# Altium schematic symbol library SamacSys.SchLib: 337 symbols (part 3 of 4)
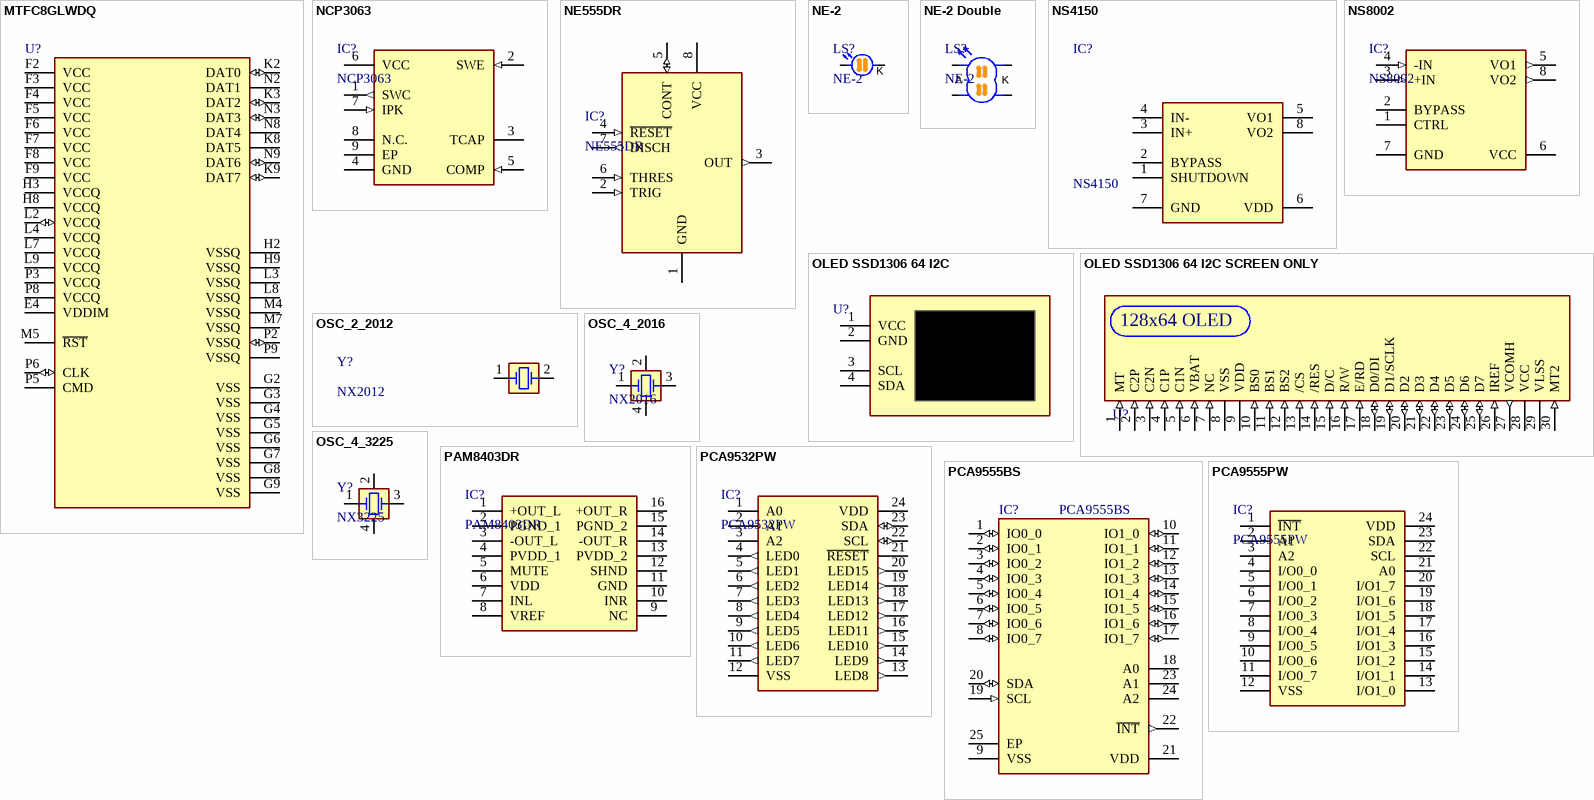
[diagram p12: symbols MTFC8GLWDQ to PCA9555PW]

## PCA9555BS
designator IC?
I/O Expander, HVQFN-24-EP(4x4), 16BIT, GPIO, I/O Expanders, ROHS; Manufacturer_Name: NXP; Manufacturer_Part_Number: PCA9555BS,118; Geometry.Height: 1mm; Mouser Part Number: 771-PCA9555BS-T; Mouser Price/Stock: https://www.mouser.co.uk/ProductDetail/NXP-Semiconductors/PCA9555BS118?qs=LOCUfHb8d9uBhjLUHjHsxQ%3D%3D; Arrow Part Number: PCA9555BS,118; Arrow Price/Stock: https://www.arrow.com/en/products/pca9555bs118/nxp-semiconductors?region=nac; Datasheet Link: http://www.nxp.com/docs/en/data-sheet/PCA9555.pdf; Value: PCA9555BS
footprint QFN50P400X400X100-25N-D
pins: 1 IO0_0 (io), 2 IO0_1 (io), 3 IO0_2 (io), 4 IO0_3 (io), 5 IO0_4 (io), 6 IO0_5 (io), 7 IO0_6 (io), 8 IO0_7 (io), 9 VSS (power), 10 IO1_0 (io), 11 IO1_1 (io), 12 IO1_2 (io), 13 IO1_3 (io), 14 IO1_4 (io), 15 IO1_5 (io), 16 IO1_6 (io), 17 IO1_7 (io), 18 A0, 19 SCL (in), 20 SDA (io), 21 VDD (power), 22 ~{INT} (out), 23 A1, 24 A2, 25 EP (power)

## PCA9555PW
designator IC?
I/O Expander, TSSOP-24, 400kHz, 16BIT, GPIO, I/O Expanders, ROHS; Datasheet Link: http://www.nxp.com/docs/en/data-sheet/PCA9555.pdf; Height: 1.1mm; Value: PCA9555PW
footprint SOP65P640X110-24N
pins: 1 ~{INT}, 2 A1, 3 A2, 4 I/O0_0, 5 I/O0_1, 6 I/O0_2, 7 I/O0_3, 8 I/O0_4, 9 I/O0_5, 10 I/O0_6, 11 I/O0_7, 12 VSS, 13 I/O1_0, 14 I/O1_1, 15 I/O1_2, 16 I/O1_3, 17 I/O1_4, 18 I/O1_5, 19 I/O1_6, 20 I/O1_7, 21 A0, 22 SCL, 23 SDA, 24 VDD

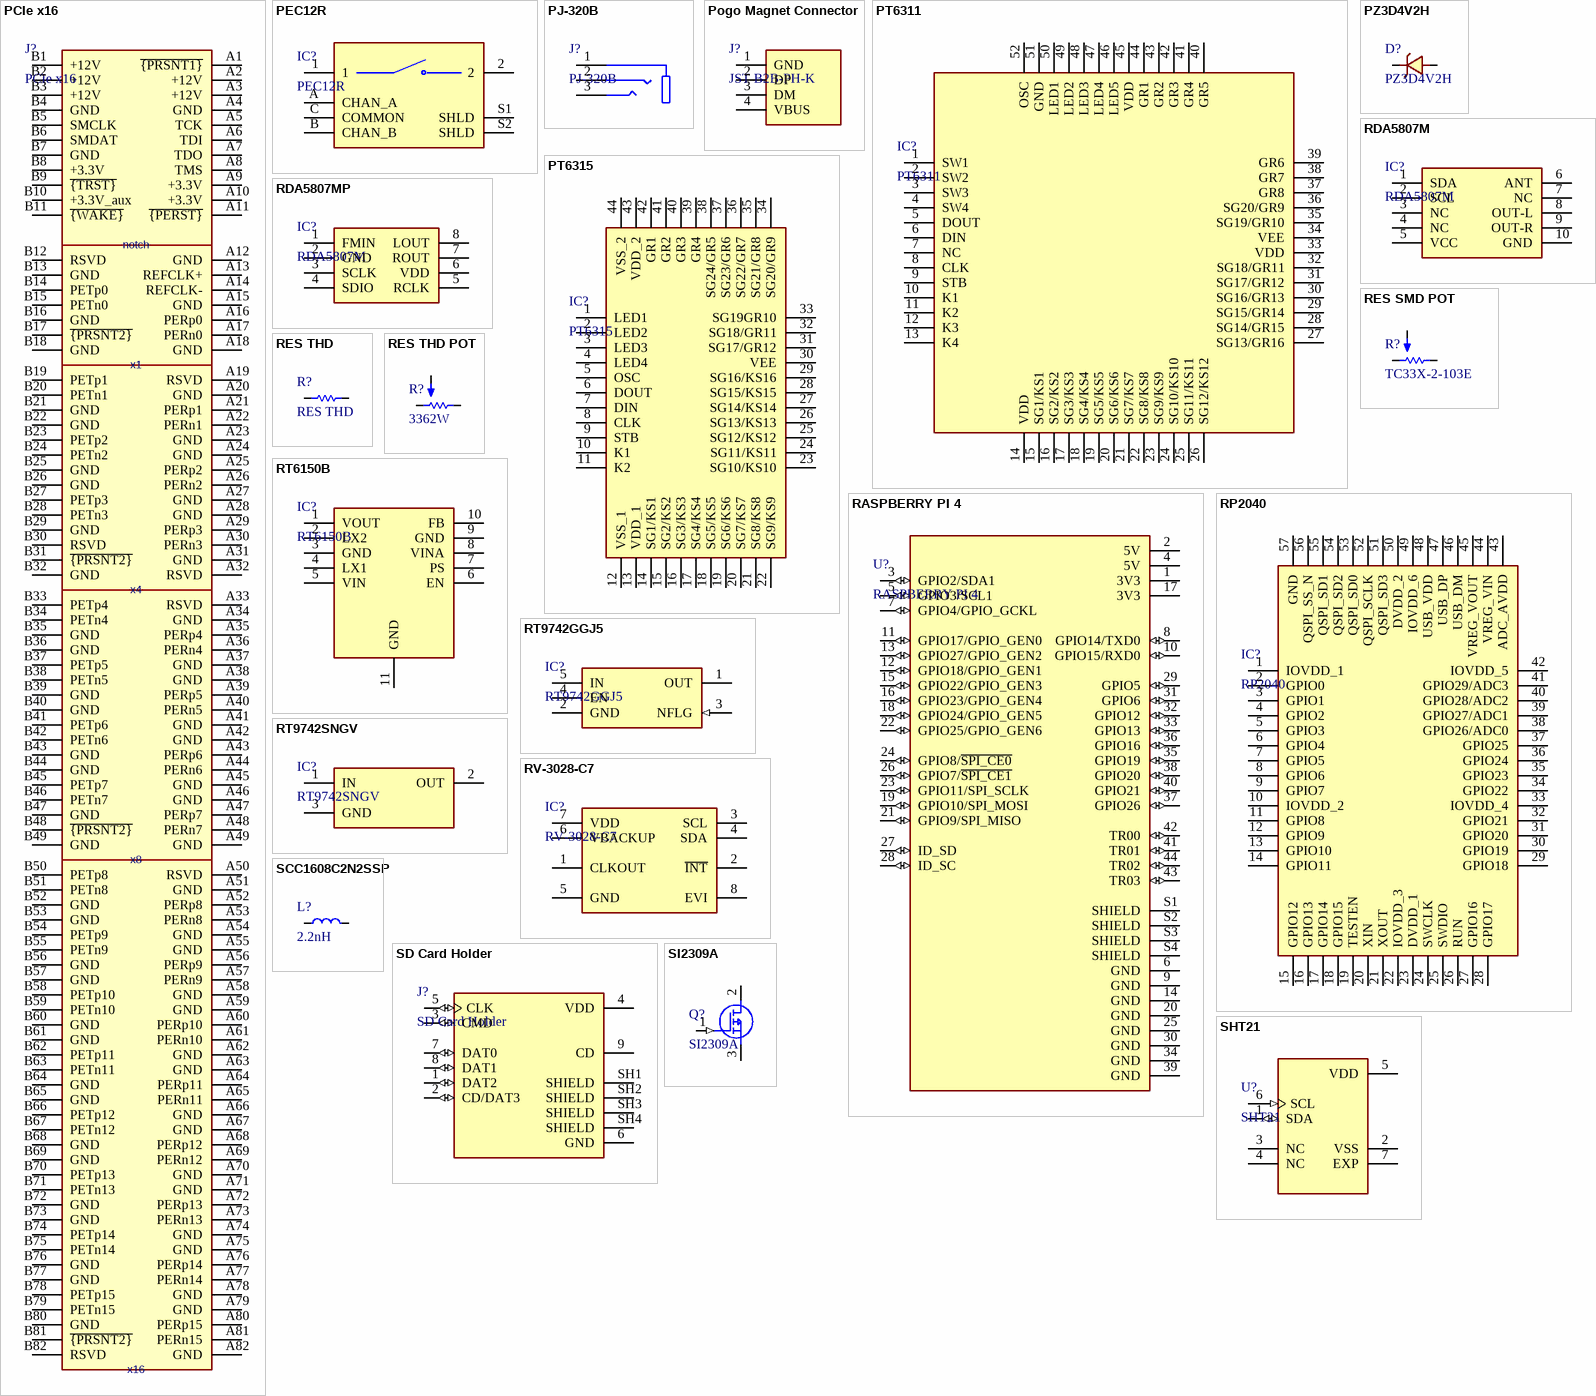
[diagram p7: symbols PCIe x16 to SI2309A]

## PCIe x16
designator J?
Card Edge, 164 Positions, 1mm Pitch, PCI Express x16, Card Edges, ROHS; MF: Amphenol ICC (FCI); MP: 10142333-10012MLF; SnapEDA_Link: https://www.snapeda.com/parts/10142333-10012MLF/Amphenol+FCI/view-part/?ref=snap; Package: None; Value: PCIe x16; Check_prices: https://www.snapeda.com/parts/10142333-10012MLF/Amphenol+FCI/view-part/?ref=eda
footprint PCIexpress_x16
pins: A1 ~{{PRSNT1}}, A2 +12V, A3 +12V, A4 GND, A5 TCK, A6 TDI, A7 TDO, A8 TMS, A9 +3.3V, A10 +3.3V, A11 ~{{PERST}}, A12 GND, A13 REFCLK+, A14 REFCLK-, A15 GND, A16 PERp0, A17 PERn0, A18 GND, A19 RSVD, A20 GND, A21 PERp1, A22 PERn1, A23 GND, A24 GND, A25 PERp2, A26 PERn2, A27 GND, A28 GND, A29 PERp3, A30 PERn3, A31 GND, A32 RSVD, A33 RSVD, A34 GND, A35 PERp4, A36 PERn4, A37 GND, A38 GND, A39 PERp5, A40 PERn5, A41 GND, A42 GND, A43 PERp6, A44 PERn6, A45 GND, A46 GND, A47 PERp7, A48 PERn7, A49 GND, A50 RSVD, A51 GND, A52 PERp8, A53 PERn8, A54 GND, A55 GND, A56 PERp9, A57 PERn9, A58 GND, A59 GND, A60 PERp10, A61 PERn10, A62 GND, A63 GND, A64 PERp11, A65 PERn11, A66 GND, A67 GND, A68 PERp12, A69 PERn12, A70 GND, A71 GND, A72 PERp13, A73 PERn13, A74 GND, A75 GND, A76 PERp14, A77 PERn14, A78 GND, A79 GND, A80 PERp15, A81 PERn15, A82 GND, B1 +12V, B2 +12V, B3 +12V, B4 GND, B5 SMCLK, B6 SMDAT, B7 GND, B8 +3.3V, B9 ~{{TRST}}, B10 +3.3V_aux, B11 ~{{WAKE}}, B12 RSVD, B13 GND, B14 PETp0, B15 PETn0, B16 GND, B17 ~{{PRSNT2}}, B18 GND, B19 PETp1, B20 PETn1, B21 GND, B22 GND, B23 PETp2, B24 PETn2, B25 GND, B26 GND, B27 PETp3, B28 PETn3, B29 GND, B30 RSVD, B31 ~{{PRSNT2}}, B32 GND, B33 PETp4, B34 PETn4, B35 GND, B36 GND, B37 PETp5, B38 PETn5, B39 GND, B40 GND, B41 PETp6, B42 PETn6, B43 GND, B44 GND, B45 PETp7, B46 PETn7, B47 GND, B48 ~{{PRSNT2}}, B49 GND, B50 PETp8, B51 PETn8, B52 GND, B53 GND, B54 PETp9, B55 PETn9, B56 GND, B57 GND, B58 PETp10, B59 PETn10, B60 GND, B61 GND, B62 PETp11, B63 PETn11, B64 GND, B65 GND, B66 PETp12, B67 PETn12, B68 GND, B69 GND, B70 PETp13, B71 PETn13, B72 GND, B73 GND, B74 PETp14, B75 PETn14, B76 GND, B77 GND, B78 PETp15, B79 PETn15, B80 GND, B81 ~{{PRSNT2}}, B82 RSVD
text: notch; x1; x4; x8; x16

## PEC12R
designator IC?
Rotary Encoder, Plugin, Rotary Encoders, ROHS; Value: PEC12R
footprint PEC12R (Encoder Horizontal)
pins: 1, 2, A CHAN_A, B CHAN_B, C COMMON, S1 SHLD, S2 SHLD

## PJ-320B
designator J?
Audio Connector, 3.5mm, Headphone Jack, 30V, 200mA, SMD Audio Connectors, ROHS; Value: PJ-320B; Package: Package
footprint PJ-320B
pins: 1 SLEEVE, 2 RING, 3 TIP

## Pogo Magnet Connector
designator J?, comment JST B2B-PH-K
Pogo Pin Spring Probe Connector, Brass, Magnetic Spring Seedle Demale Socket, 4P 50mΩ, 10,000 Times, Gold, Pogo Pin Spring Probe Connectors, ROHS; Value: JST B2B-PH-K
footprint POGO
pins: 1 GND, 2 DP, 3 DM, 4 VBUS

## PT6311
designator IC?
Driver VFD/Controller IC, LQFP-52(14x14), ROHS; Datasheet Link: http://www.bg-electronics.de/datenblaetter/Schaltkreise/PT6315.pdf; Height: 1.6mm; Value: PT6311
footprint QFP100P1720X1720X315-52N (CQFP, 52-Leads, Body 17,20x17,20mm, Pitch 1,00mm, IPC Medium Density)
pins: 1 SW1, 2 SW2, 3 SW3, 4 SW4, 5 DOUT, 6 DIN, 7 NC, 8 CLK, 9 STB, 10 K1, 11 K2, 12 K3, 13 K4, 14 VDD, 15 SG1/KS1, 16 SG2/KS2, 17 SG3/KS3, 18 SG4/KS4, 19 SG5/KS5, 20 SG6/KS6, 21 SG7/KS7, 22 SG8/KS8, 23 SG9/KS9, 24 SG10/KS10, 25 SG11/KS11, 26 SG12/KS12, 27 SG13/GR16, 28 SG14/GR15, 29 SG15/GR14, 30 SG16/GR13, 31 SG17/GR12, 32 SG18/GR11, 33 VDD, 34 VEE, 35 SG19/GR10, 36 SG20/GR9, 37 GR8, 38 GR7, 39 GR6, 40 GR5, 41 GR4, 42 GR3, 43 GR2, 44 GR1, 45 VDD, 46 LED5, 47 LED4, 48 LED3, 49 LED2, 50 LED1, 51 GND, 52 OSC

## PT6315
designator IC?
Driver VFD/Controller IC, LQFP-44(10x10), ROHS; Datasheet Link: http://www.bg-electronics.de/datenblaetter/Schaltkreise/PT6315.pdf; Height: 1.6mm; Value: PT6315
footprint QFP80P1200X1200X160-44N
pins: 1 LED1, 2 LED2, 3 LED3, 4 LED4, 5 OSC, 6 DOUT, 7 DIN, 8 CLK, 9 STB, 10 K1, 11 K2, 12 VSS_1, 13 VDD_1, 14 SG1/KS1, 15 SG2/KS2, 16 SG3/KS3, 17 SG4/KS4, 18 SG5/KS5, 19 SG6/KS6, 20 SG7/KS7, 21 SG8/KS8, 22 SG9/KS9, 23 SG10/KS10, 24 SG11/KS11, 25 SG12/KS12, 26 SG13/KS13, 27 SG14/KS14, 28 SG15/KS15, 29 SG16/KS16, 30 VEE, 31 SG17/GR12, 32 SG18/GR11, 33 SG19GR10, 34 SG20/GR9, 35 SG21/GR8, 36 SG22/GR7, 37 SG23/GR6, 38 SG24/GR5, 39 GR4, 40 GR3, 41 GR2, 42 GR1, 43 VDD_2, 44 VSS_2

## PZ3D4V2H
designator D?
Zener Diode, SMD, SOD-323, Independent Type, 500mW, 5.1V, Zener Diodes, ROHS; Datasheet Link: https://datasheet.datasheetarchive.com/originals/distributors/Datasheets_SAMA/69e8bf8de77318eea2cba0fbdd4d29c0.pdf; Height: 2.44mm; Value: PZ3D4V2H
footprint SOD-323
pins: 1 Kathode, 2 Anode

## RASPBERRY PI 4
designator U?
Development Board, Raspberry Pi 4 Model B, 4GB, Development Boards & Kits, ROHS; MP: RASPBERRY PI 4B/4GB; Price: None; MF: Raspberry Pi; Check_prices: https://www.snapeda.com/parts/RASPBERRY%20PI%204B/4GB/Raspberry+Pi/view-part/?ref=eda; Value: RASPBERRY PI 4; Purchase-URL: https://pricing.snapeda.com/search/part/RASPBERRY PI 4B/4GB/?ref=eda; Availability: In Stock; SnapEDA_Link: https://www.snapeda.com/parts/RASPBERRY%20PI%204B/4GB/Raspberry+Pi/view-part/?ref=snap; Package: None
footprint MODULE_RASPBERRY_PI_4B_4GB
pins: 1 3V3 (power), 2 5V (power), 3 GPIO2/SDA1 (io), 4 5V (power), 5 GPIO3/SCL1 (io), 6 GND (power), 7 GPIO4/GPIO_GCKL (io), 8 GPIO14/TXD0 (io), 9 GND (power), 10 GPIO15/RXD0 (io), 11 GPIO17/GPIO_GEN0 (io), 12 GPIO18/GPIO_GEN1 (io), 13 GPIO27/GPIO_GEN2 (io), 14 GND (power), 15 GPIO22/GPIO_GEN3 (io), 16 GPIO23/GPIO_GEN4 (io), 17 3V3 (power), 18 GPIO24/GPIO_GEN5 (io), 19 GPIO10/SPI_MOSI (io), 20 GND (power), 21 GPIO9/SPI_MISO (io), 22 GPIO25/GPIO_GEN6 (io), 23 GPIO11/SPI_SCLK (io), 24 GPIO8/~{SPI_CE0} (io), 25 GND (power), 26 GPIO7/~{SPI_CE1} (io), 27 ID_SD (io), 28 ID_SC (io), 29 GPIO5 (io), 30 GND (power), 31 GPIO6 (io), 32 GPIO12 (io), 33 GPIO13 (io), 34 GND (power), 35 GPIO19 (io), 36 GPIO16 (io), 37 GPIO26 (io), 38 GPIO20 (io), 39 GND (power), 40 GPIO21 (io), 41 TR01 (io), 42 TR00 (io), 43 TR03 (io), 44 TR02 (io), S1 SHIELD (power), S2 SHIELD (power), S3 SHIELD (power), S4 SHIELD (power)

## RDA5807M
designator IC?
Development Board, SMD, FM DSP Integrated Circuit Receiver, 50~115MHz, Development Boards & Kits, ROHS; Value: RDA5807M
footprint RDA5807M
pins: 1 SDA, 2 SCL, 3 NC, 4 NC, 5 VCC, 6 ANT, 7 NC, 8 OUT-L, 9 OUT-R, 10 GND

## RDA5807MP
designator IC?, comment RDA5807M
RF Misc IC, DAB Broadcast Radio, SOP-8, RF Misc ICs and Modules, ROHS; Height: 1.75mm; Value: RDA5807M
footprint SOIC127P600X175-8N
pins: 1 FMIN, 2 GND, 3 SCLK, 4 SDIO, 5 RCLK, 6 VDD, 7 ROUT, 8 LOUT

## RES SMD POT
designator R?, comment TC33X-2-103E
Potentiometer, ±25%, ±250ppm/℃, 150mW, SMD-3P, 3.8x3.6mm, Potentiometers, Variable Resistors, ROHS; Package: SOD-23 Bourns; Value: TC33X-2-103E
footprint TC33X
pins: 1, 2 TAP, 2

## RES THD
designator R?
Resistor, Through Hole , Metal Film Resistors, 1/4W, ±100ppm/℃, ±1%, Plugin, D2.3xL6.5mm, Through Hole Resistors, ROHS; Value: RES THD
footprint TH RESISTOR
footprint TH RESISTOR VERTICAL WITH SMD 0603
pins: 1, 2

## RES THD POT
designator R?, comment 3362W
Potentiometer, ±10%, Plugin-3P, 9.5x4.9mm, Potentiometers, Variable Resistors, ROHS; Value: 3362W
footprint 3362W
pins: 1, 2 TAP, 2

## RP2040
designator IC?
Microcontroller, LQFN-56(7x7), 133MHz, Microcontrollers (MCU/MPU/SOC), ROHS; Datasheet Link: https://datasheets.raspberrypi.org/rp2040/rp2040-datasheet.pdf; Height: 0.9mm; Value: RP2040
footprint QFN40P (700x700x90-57N-D)
pins: 1 IOVDD_1, 2 GPIO0, 3 GPIO1, 4 GPIO2, 5 GPIO3, 6 GPIO4, 7 GPIO5, 8 GPIO6, 9 GPIO7, 10 IOVDD_2, 11 GPIO8, 12 GPIO9, 13 GPIO10, 14 GPIO11, 15 GPIO12, 16 GPIO13, 17 GPIO14, 18 GPIO15, 19 TESTEN, 20 XIN, 21 XOUT, 22 IOVDD_3, 23 DVDD_1, 24 SWCLK, 25 SWDIO, 26 RUN, 27 GPIO16, 28 GPIO17, 29 GPIO18, 30 GPIO19, 31 GPIO20, 32 GPIO21, 33 IOVDD_4, 34 GPIO22, 35 GPIO23, 36 GPIO24, 37 GPIO25, 38 GPIO26/ADC0, 39 GPIO27/ADC1, 40 GPIO28/ADC2, 41 GPIO29/ADC3, 42 IOVDD_5, 43 ADC_AVDD, 44 VREG_VIN, 45 VREG_VOUT, 46 USB_DM, 47 USB_DP, 48 USB_VDD, 49 IOVDD_6, 50 DVDD_2, 51 QSPI_SD3, 52 QSPI_SCLK, 53 QSPI_SD0, 54 QSPI_SD2, 55 QSPI_SD1, 56 QSPI_SS_N, 57 GND

## RT6150B
designator IC?
DC-DC Converter, WSON-10-EP(2.5x2.5), Boost Type, Adjustable, 1.8V~5.5V, 1.8V~5.5V, 800mA, DC-DC Converters, ROHS; Datasheet Link: https://datasheet.octopart.com/RT6150B-33GQW-Richtek-datasheet-82510503.pdf; Height: 0.8mm; Value: RT6150B
footprint SON50P250X250X80-11N-D
pins: 1 VOUT, 2 LX2, 3 GND, 4 LX1, 5 VIN, 6 EN, 7 PS, 8 VINA, 9 GND, 10 FB, 11 GND

## RT9742GGJ5
designator IC?
Power Distribution Switch, TSOT-23-5, 1, Active High, 1A, High Side Switch, Power Distribution Switches, Load Drivers, RoHS; MF: Richtek USA Inc.; SnapEDA_Link: https://www.snapeda.com/parts/RT9742GGJ5/Richtek/view-part/?ref=snap; Package: SOT-23-5 Richtek USA Inc.; Value: RT9742GGJ5; MP: RT9742GGJ5; Check_prices: https://www.snapeda.com/parts/RT9742GGJ5/Richtek/view-part/?ref=eda
footprint SOT95P285X145-5N
pins: 1 OUT (power), 2 GND (power), 3 NFLG (in), 4 EN, 5 IN (power)

## RT9742SNGV
designator IC?
Power Distribution Switch, TSOT-23-3, 1, Active High, 500mA, High Side Switch, Power Distribution Switches, Load Drivers, RoHS; MF: Richtek USA Inc.; MP: RT9742GGJ5; SnapEDA_Link: https://www.snapeda.com/parts/RT9742GGJ5/Richtek/view-part/?ref=snap; Package: SOT-23-5 Richtek USA Inc.; Value: RT9742SNGV; Check_prices: https://www.snapeda.com/parts/RT9742GGJ5/Richtek/view-part/?ref=eda
footprint SOT190P279X129-3N
pins: 1 IN (power), 2 OUT (power), 3 GND (power)

## RV-3028-C7
designator IC?
Real Time Clock, SMD3215-8P, I2C, Real Time Clocks, ROHS; Manufacturer_Name: Micro Crystal AG; Datasheet Link: https://www.microcrystal.com/fileadmin/Media/Products/RTC/Datasheet/RV-3028-C7.pdf; Height: 0.8mm; Manufacturer_Part_Number: RV-3028-C7; Value: RV-3028-C7
footprint SMD3215-8P (Footprint not found)
pins: 1 CLKOUT, 2 ~{INT}, 3 SCL, 4 SDA, 5 GND, 6 VBACKUP, 7 VDD, 8 EVI

## SCC1608C2N2SSP
designator L?, comment 2.2nH
Fixed Inductor, SMD, 0603, 2.2nH, 500mA, ±5%, 200mΩ, Fixed Inductors, RoHS; Value: 2.2nH
footprint IND_SMD_0603_(M1608) (SMD Inductor)
pins: 1, 2

## SD Card Holder
designator J?
SD Card / Memory Card Connector, 1.55mm, Card Slot, MicroSD Card (TF Card), Plug-in, SD Card / Memory Card Connectors, ROHS; Value: SD Card Holder; Package: None
footprint SD Card Holder
footprint AMPHENOL_1140084168 (10 (8 + 2) Position Card Connector Secure Digital - microSD™ Surface Mount, Right Angle Gold)
pins: 1 DAT2 (io), 2 CD/DAT3 (io), 3 CMD (io), 4 VDD (power), 5 CLK (io), 6 GND (power), 7 DAT0 (io), 8 DAT1 (io), 9 CD, SH1 SHIELD (power), SH2 SHIELD (power), SH3 SHIELD (power), SH4 SHIELD (power)

## SHT21
designator U?
Temperature Sensor, Temperature and Humidity Sensor, ROHS; Package: DFN-6 Sensirion; Value: SHT21
footprint SHT21 (SHT21 Temperature Sensor)
pins: 1 SDA (io), 2 VSS (power), 3 NC, 4 NC, 5 VDD (power), 6 SCL (in), 7 EXP

## SI2309A
designator Q?
MOSFET (P-Channel), SOT-23, 60V, 1.25A, 1.25W, P-channel MOSFETs, ROHS; MF: Alpha & Omega Semiconductor; MP: AO3401A; SnapEDA_Link: https://www.snapeda.com/parts/AO3401A/Alpha/view-part/?ref=snap; Package: SOT-23 Alpha &amp; Omega Semiconductor; Value: SI2309A; Check_prices: https://www.snapeda.com/parts/AO3401A/Alpha/view-part/?ref=eda
footprint SOT95P240X120-3N
pins: 1 G (in), 2 D (power), 3 S (power)

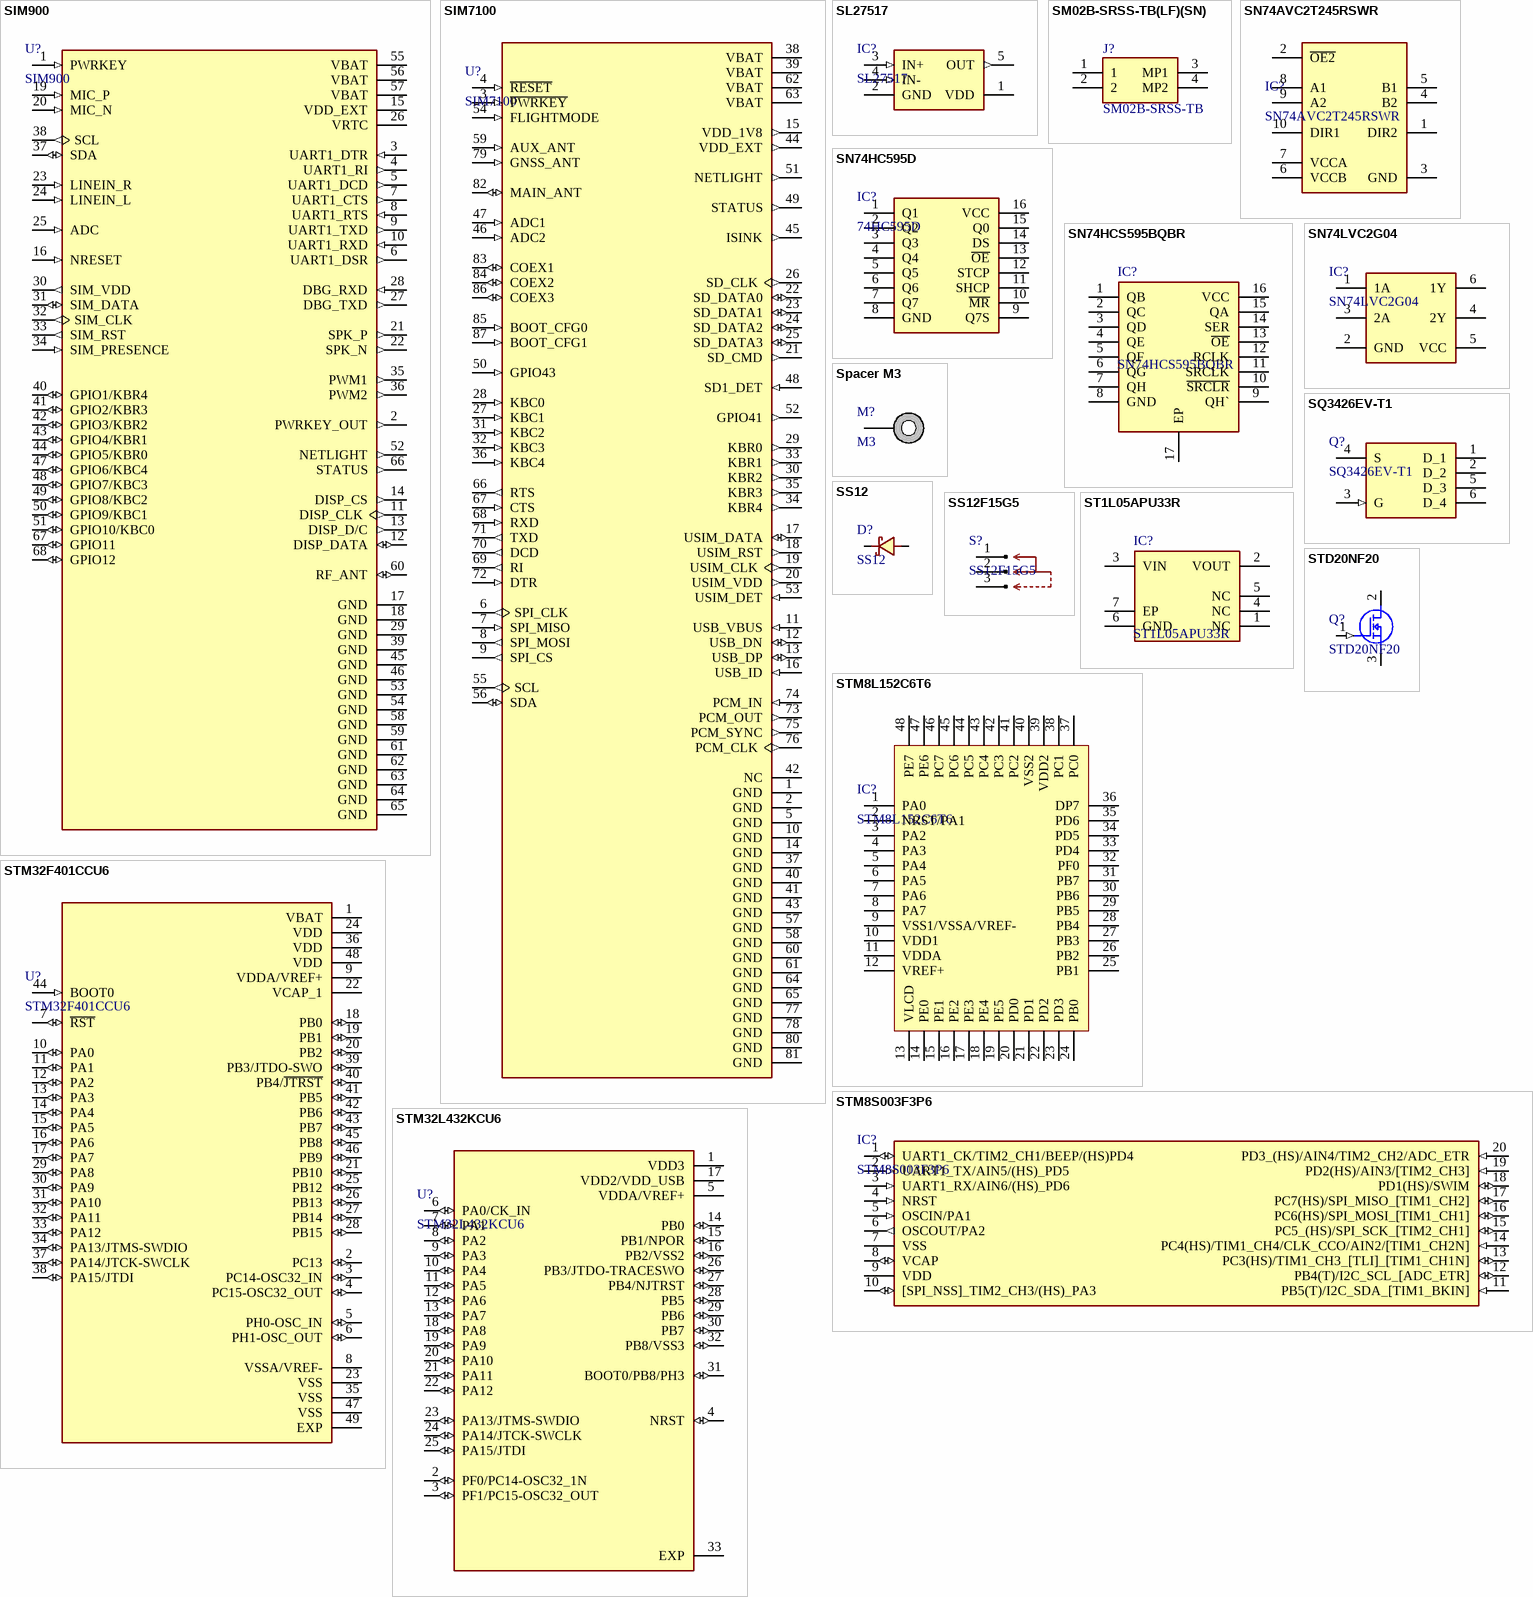
[diagram p8: symbols SIM900 to STM32L432KCU6]

## SIM900
designator U?
RF Transceiver Module, SMD, 24x24mm, 2G/3G/4G/5G Modules, RF Transceiver Modules and Modems, ROHS; MF: Seeed Technology; Package: DIP-60 Simcom; Availability: Unavailable; MP: SIM900; Value: SIM900; SnapEDA_Link: https://www.snapeda.com/parts/SIM900/Seeed%20Technology%20Co.%2C%20Ltd/view-part/105877/?ref=snap; Price: None
footprint QFN100P2400X2400X300-68N
pins: 1 PWRKEY (in), 2 PWRKEY_OUT (out), 3 UART1_DTR (in), 4 UART1_RI (out), 5 UART1_DCD (out), 6 UART1_DSR (out), 7 UART1_CTS (out), 8 UART1_RTS (in), 9 UART1_TXD (out), 10 UART1_RXD (in), 11 DISP_CLK (out), 12 DISP_DATA (io), 13 DISP_D/C (out), 14 DISP_CS (out), 15 VDD_EXT (power), 16 NRESET (in), 17 GND (power), 18 GND (power), 19 MIC_P (in), 20 MIC_N (in), 21 SPK_P (out), 22 SPK_N (out), 23 LINEIN_R (in), 24 LINEIN_L (in), 25 ADC (in), 26 VRTC (power), 27 DBG_TXD (out), 28 DBG_RXD (in), 29 GND (power), 30 SIM_VDD (out), 31 SIM_DATA (io), 32 SIM_CLK (out), 33 SIM_RST (out), 34 SIM_PRESENCE (in), 35 PWM1 (out), 36 PWM2 (out), 37 SDA (io), 38 SCL (out), 39 GND (power), 40 GPIO1/KBR4 (io), 41 GPIO2/KBR3 (io), 42 GPIO3/KBR2 (io), 43 GPIO4/KBR1 (io), 44 GPIO5/KBR0 (io), 45 GND (power), 46 GND (power), 47 GPIO6/KBC4 (io), 48 GPIO7/KBC3 (io), 49 GPIO8/KBC2 (io), 50 GPIO9/KBC1 (io), 51 GPIO10/KBC0 (io), 52 NETLIGHT (out), 53 GND (power), 54 GND (power), 55 VBAT (power), 56 VBAT (power), 57 VBAT (power), 58 GND (power), 59 GND (power), 60 RF_ANT (io), 61 GND (power), 62 GND (power), 63 GND (power), 64 GND (power), 65 GND (power), 66 STATUS (out), 67 GPIO11 (io), 68 GPIO12 (io)

## SIM7100
designator U?
RF Transceiver Module, SMD, 30x30mm, 2G/3G/4G/5G Modules, RF Transceiver Modules and Modems, ROHS; MF: Simcom; MP: SIM7100A S2-10671; SnapEDA_Link: https://www.snapeda.com/parts/SIM7100A%20S2-10671/SIMcom%20Wireless%20solutions%20Co.%2CLtd/view-part/796159/?ref=snap; Price: None; Value: SIM7100; Package: None; Availability: Unavailable
footprint XCVR_SIM7100
pins: 1 GND (power), 2 GND (power), 3 ~{PWRKEY} (in), 4 ~{RESET} (in), 5 GND (power), 6 SPI_CLK (out), 7 SPI_MISO (in), 8 SPI_MOSI (out), 9 SPI_CS (out), 10 GND (power), 11 USB_VBUS (in), 12 USB_DN (io), 13 USB_DP (io), 14 GND (power), 15 VDD_1V8 (out), 16 USB_ID (in), 17 USIM_DATA (io), 18 USIM_RST (out), 19 USIM_CLK (out), 20 USIM_VDD (out), 21 SD_CMD (out), 22 SD_DATA0 (io), 23 SD_DATA1 (io), 24 SD_DATA2 (io), 25 SD_DATA3 (io), 26 SD_CLK (out), 27 KBC1 (in), 28 KBC0 (in), 29 KBR0 (out), 30 KBR2 (out), 31 KBC2 (in), 32 KBC3 (in), 33 KBR1 (out), 34 KBR4 (out), 35 KBR3 (out), 36 KBC4 (in), 37 GND (power), 38 VBAT (power), 39 VBAT (power), 40 GND (power), 41 GND (power), 42 NC, 43 GND (power), 44 VDD_EXT (out), 45 ISINK (out), 46 ADC2 (in), 47 ADC1 (in), 48 SD1_DET (in), 49 STATUS (out), 50 GPIO43 (in), 51 NETLIGHT (out), 52 GPIO41 (out), 53 USIM_DET (in), 54 FLIGHTMODE (in), 55 SCL (out), 56 SDA (io), 57 GND (power), 58 GND (power), 59 AUX_ANT (in), 60 GND (power), 61 GND (power), 62 VBAT (power), 63 VBAT (power), 64 GND (power), 65 GND (power), 66 RTS (out), 67 CTS (in), 68 RXD (in), 69 RI (out), 70 DCD (out), 71 TXD (out), 72 DTR (in), 73 PCM_OUT (out), 74 PCM_IN (in), 75 PCM_SYNC (out), 76 PCM_CLK (out), 77 GND (power), 78 GND (power), 79 GNSS_ANT (in), 80 GND (power), 81 GND (power), 82 MAIN_ANT (io), 83 COEX1 (io), 84 COEX2 (io), 85 BOOT_CFG0 (in), 86 COEX3 (io), 87 BOOT_CFG1 (in)

## SL27517
designator IC?
Gate Driver, SOT-23-5, Low Edge, 1 MOSFET, 4A, 6ns, 6ns, 4.5V~20V, 4A, Gate Drivers, ROHS; Value: SL27517
footprint SOT95P285X145-5N
pins: 1 VDD (power), 2 GND (power), 3 IN+ (in), 4 IN- (in), 5 OUT (out)

## SM02B-SRSS-TB(LF)(SN)
designator J?, comment SM02B-SRSS-TB
Wire To Board Connector, 1x2P, 2P, SH, Tin 2, -25℃~+85℃, 1A, 1, 1mm, Copper Alloy, Horizontal Attachment, SMD, P=1mm, Surface Mount, Right Angle Wire To Board Connectors ROHS; Manufacturer_Name: JST (JAPAN SOLDERLESS TERMINALS); Manufacturer_Part_Number: SM02B-SRSS-TB(LF)(SN); Geometry.Height: 2.95mm; Mouser Part Number: N/A; Mouser Price/Stock: https://www.mouser.co.uk/ProductDetail/JST-Commercial/SM02B-SRSS-TBLFSN?qs=IKkN%2F947nfBJBdlb%252BYi4ow%3D%3D; Arrow Part Number: SM02B-SRSS-TB(LF)(SN); Arrow Price/Stock: https://www.arrow.com/en/products/sm02b-srss-tb-lf-sn/jst-manufacturing?utm_currency=USD&region=europe; Datasheet Link: http://www.jst-mfg.com/product/pdf/eng/eSH.pdf; Value: SM02B-SRSS-TB
footprint SM02BSRSSTBLFSN
pins: 1, 2, 3 MP1, 4 MP2

## SN74AVC2T245RSWR
designator IC?
Transceiver, WQFN-10(1.4x1.8), Buffers, Drivers, Receivers, Transceivers ROHS; Manufacturer_Name: Texas Instruments; Datasheet Link: http://www.ti.com/lit/ds/symlink/sn74avc2t245.pdf; Manufacturer_Part_Number: SN74AVC2T245RSWR; Mouser Part Number: 595-SN74AVC2T245RSWR; Mouser Price/Stock: https://www.mouser.co.uk/ProductDetail/Texas-Instruments/SN74AVC2T245RSWR?qs=59Rn2Bt6jP10ddXtSUJOPw%3D%3D; Arrow Part Number: SN74AVC2T245RSWR; Arrow Price/Stock: https://www.arrow.com/en/products/sn74avc2t245rswr/texas-instruments?utm_currency=USD&region=nac; Value: SN74AVC2T245RSWR
footprint RSW(RPUQFNN10)
pins: 1 DIR2, 2 ~{OE2}, 3 GND (power), 4 B2, 5 B1, 6 VCCB (power), 7 VCCA (power), 8 A1, 9 A2, 10 DIR1

## SN74HC595D
designator IC?, comment 74HC595D
Shift Register, SOIC-16, Serial To Serial Or Parallel Shift Register, ROHS; Datasheet Link: https://assets.nexperia.com/documents/data-sheet/74HC_HCT595.pdf; Height: 1.75mm; Value: 74HC595D
footprint SOIC127P600X175-16N
pins: 1 Q1, 2 Q2, 3 Q3, 4 Q4, 5 Q5, 6 Q6, 7 Q7, 8 GND, 9 Q7S, 10 ~{MR}, 11 SHCP, 12 STCP, 13 ~{OE}, 14 DS, 15 Q0, 16 VCC

## SN74HCS595BQBR
designator IC?
Shift Register, WQFN-16(2.5x3.5), 8, 2V~6V, 1 Serial-to-Parallel, Shift Registers ROHS; Manufacturer_Name: Texas Instruments; Geometry.Height: 0.8mm; Manufacturer_Part_Number: SN74HCS595BQBR; Mouser Part Number: 595-SN74HCS595BQBR; Mouser Price/Stock: https://www.mouser.co.uk/ProductDetail/Texas-Instruments/SN74HCS595BQBR?qs=81r%252BiQLm7BQMT87PuRHueA%3D%3D; Arrow Part Number: SN74HCS595BQBR; Arrow Price/Stock: https://www.arrow.com/en/products/sn74hcs595bqbr/texas-instruments?region=nac; Datasheet Link: https://www.ti.com/lit/ds/symlink/sn74hcs595.pdf?ts=1630485919581&ref_url=https%253A%252F%252Fwww.ti.com%252Fstore%252Fti%252Fen%252Fp%252Fproduct%252F%253Fp%253DSN74HCS595BQBR; Value: SN74HCS595BQBR
footprint QFN50P250X350X80-17N
pins: 1 QB, 2 QC, 3 QD, 4 QE, 5 QF, 6 QG, 7 QH, 8 GND, 9 QH`, 10 ~{SRCLR}, 11 SRCLK, 12 RCLK, 13 ~{OE}, 14 SER, 15 QA, 16 VCC, 17 EP

## SN74LVC2G04
designator IC?
Inverter, SOT-23-6, 3.2ns@5V, 50pF, 10uA, 1.65V~5.5V, Inverters ROHS; Manufacturer_Name: Texas Instruments; Manufacturer_Part_Number: SN74LVC2G04DBVR; Datasheet Link: http://www.ti.com/lit/gpn/sn74lvc2g04; Height: 1.45mm; Mouser Part Number: 595-SN74LVC2G04DBVR; Mouser Price/Stock: https://www.mouser.co.uk/ProductDetail/Texas-Instruments/SN74LVC2G04DBVR?qs=HE9hdJajmeqXJJ9RII89dg%3D%3D; Arrow Part Number: SN74LVC2G04DBVR; Arrow Price/Stock: https://www.arrow.com/en/products/sn74lvc2g04dbvr/texas-instruments?utm_currency=USD&region=nac; Value: SN74LVC2G04
footprint SOT95P280X145-6N
pins: 1 1A, 2 GND, 3 2A, 4 2Y, 5 VCC, 6 1Y

## Spacer M3
designator M?, comment M3
Spacer M3; system: connector; Value: M3
footprint SPACER M3 7MM
footprint SPACER M3 21MM
pins: 1 (power)

## SQ3426EV-T1
designator Q?
MOSFET (N-Channel), TSOP-6-1.5mm, 60V, 7A, 0.042Ω@10V, 5A, 5W, 2.5V, MOSFETs, ROHS; Manufacturer_Name: Vishay; Manufacturer_Part_Number: SQ3426EV-T1_BE3; Datasheet Link: https://www.vishay.com/docs/65107/sq3426ev.pdf; Height: 1.1mm; Mouser Part Number: 78-SQ3426EV-T1_BE3; Mouser Price/Stock: https://www.mouser.co.uk/ProductDetail/Vishay-Siliconix/SQ3426EV-T1_BE3?qs=TiOZkKH1s2Qv9PW0sRGupQ%3D%3D; Arrow Part Number: SQ3426EV-T1_BE3; Arrow Price/Stock: https://www.arrow.com/en/products/sq3426ev-t1-be3/vishay?region=nac; Value: SQ3426EV-T1
footprint SOT95P284X110-6N
pins: 1 D_1, 2 D_2, 3 G (in), 4 S, 5 D_3, 6 D_4

## SS12
designator D?
Diode Schottky, SMD, SMA(DO-214AC), 20V, 1A,  500mV@1A, Schottky Diodes, ROHS; Datasheet Link: https://datasheet.datasheetarchive.com/originals/distributors/Datasheets-24/DSA-463612.pdf; Height: 2.5mm; Value: SS12
footprint DO-214AC - SMA (SMD Diode Package)
footprint DO-214AC (SMD Diode Package)
footprint DO-41/DO-214AC_THD/SMD_SMD
footprint DO-41/DO-214AC_VERTICAL_SMD/THD_SMD (DO-41 Package)
pins: 1 Kathode, 2 Anode

## SS12F15G5
designator S?
Slide Switch, Direct Insert, 300mA, Single Pole Double Throw (SPDT), 50V, 5 Thousand Times, Plugin Slide Switches, ROHS; Value: SS12F15G5
footprint SS12F15G5
footprint SS12F15G5 - 3D Model (Toggle Switch)
pins: 1, 2, 3

## ST1L05APU33R
designator IC?
Low Drop Out (LDO) Regulator, DFN-6(3x3), 1.3A, 65dB@(120Hz), Fixed 3.3V, Positive 5.25V,  Voltage Regulators - Linear, Low Drop Out (LDO) Regulators ROHS; Manufacturer_Name: STMicroelectronics; Geometry.Height: 1mm; Manufacturer_Part_Number: ST1L05APU33R; Mouser Part Number: 511-ST1L05APU33R; Mouser Price/Stock: https://www.mouser.co.uk/ProductDetail/STMicroelectronics/ST1L05APU33R?qs=TEE7KwcILpzoVyxOB2gDPw%3D%3D; Arrow Part Number: ST1L05APU33R; Arrow Price/Stock: https://www.arrow.com/en/products/st1l05apu33r/stmicroelectronics?region=nac; Datasheet Link: https://www.st.com/resource/en/datasheet/st1l05.pdf; Value: ST1L05APU33R
footprint SON95P300X300X100-7N-D
pins: 1 NC, 2 VOUT, 3 VIN, 4 NC, 5 NC, 6 GND, 7 EP

## STD20NF20
designator Q?
MOSFET (N-Channel), DPAK, 200V, 18A, 30W, 125mΩ@10V, 1 N-Channel, Single FETs, MOSFETs, RoHS; Datasheet Link: https://www.onsemi.com/pub/Collateral/FDD10N20LZ-D.pdf; Value: STD20NF20
footprint TO-220 WITH SMD
footprint TO-220 WITH SMD_2
footprint TO-220/DPAK_THD/SMD_SMD_#1
footprint TO-220/DPAK_THD/SMD_SMD_#2
footprint DPAK (SMD Package)
pins: 1 G (in), 2 D (power), 3 S (power)

## STM8L152C6T6
designator IC?
Microcontroller, LQFP-48(7x7), STM8, 16MHz, Microcontrollers (MCU/MPU/SOC), ROHS; Value: STM8L152C6T6
footprint QFP50P900X900X160-48N
pins: 1 PA0 (power), 2 NRST/PA1 (power), 3 PA2 (power), 4 PA3 (power), 5 PA4 (power), 6 PA5 (power), 7 PA6 (power), 8 PA7 (power), 9 VSS1/VSSA/VREF- (power), 10 VDD1 (power), 11 VDDA (power), 12 VREF+ (power), 13 VLCD (power), 14 PE0 (power), 15 PE1 (power), 16 PE2 (power), 17 PE3 (power), 18 PE4 (power), 19 PE5 (power), 20 PD0 (power), 21 PD1 (power), 22 PD2 (power), 23 PD3 (power), 24 PB0 (power), 25 PB1 (power), 26 PB2 (power), 27 PB3 (power), 28 PB4 (power), 29 PB5 (power), 30 PB6 (power), 31 PB7 (power), 32 PF0 (power), 33 PD4 (power), 34 PD5 (power), 35 PD6 (power), 36 DP7 (power), 37 PC0 (power), 38 PC1 (power), 39 VDD2 (power), 40 VSS2 (power), 41 PC2 (power), 42 PC3 (power), 43 PC4 (power), 44 PC5 (power), 45 PC6 (power), 46 PC7 (power), 47 PE6 (power), 48 PE7 (power)

## STM8S003F3P6
designator IC?
Microcontroller,  TSSOP-20, STM8, 16MHz, Microcontrollers (MCU/MPU/SOC), ROHS; Value: STM8S003F3P6; Package: TSSOP-20 STMicroelectronics
footprint SOP65P640X120-20N
pins: 1 UART1_CK/TIM2_CH1/BEEP/(HS)PD4 (io), 2 UART1_TX/AIN5/(HS)_PD5 (in), 3 UART1_RX/AIN6/(HS)_PD6 (in), 4 NRST (in), 5 OSCIN/PA1 (in), 6 OSCOUT/PA2 (out), 7 VSS (power), 8 VCAP (io), 9 VDD (power), 10 [SPI_NSS]_TIM2_CH3/(HS)_PA3 (io), 11 PB5(T)/I2C_SDA_[TIM1_BKIN] (in), 12 PB4(T)/I2C_SCL_[ADC_ETR] (io), 13 PC3(HS)/TIM1_CH3_[TLI]_[TIM1_CH1N] (io), 14 PC4(HS)/TIM1_CH4/CLK_CCO/AIN2/[TIM1_CH2N] (in), 15 PC5_(HS)/SPI_SCK_[TIM2_CH1] (io), 16 PC6(HS)/SPI_MOSI_[TIM1_CH1] (io), 17 PC7(HS)/SPI_MISO_[TIM1_CH2] (io), 18 PD1(HS)/SWIM (io), 19 PD2(HS)/AIN3/[TIM2_CH3] (in), 20 PD3_(HS)/AIN4/TIM2_CH2/ADC_ETR (in)

## STM32F401CCU6
designator U?
Microcontroller, UFQFPN-48(7x7) , ARM-M4, 84MHz, Microcontrollers (MCU/MPU/SOC), ROHS; MF: STMicroelectronics; MP: STM32F401CCU6.; SnapEDA_Link: https://www.snapeda.com/parts/STM32F401CCU6./STMicroelectronics/view-part/?ref=snap; Package: None; Value: STM32F401CCU6; Check_prices: https://www.snapeda.com/parts/STM32F401CCU6./STMicroelectronics/view-part/?ref=eda
footprint QFN50P700X700X60-49N
pins: 1 VBAT (power), 2 PC13 (io), 3 PC14-OSC32_IN (io), 4 PC15-OSC32_OUT (io), 5 PH0-OSC_IN (io), 6 PH1-OSC_OUT (io), 7 ~{RST} (io), 8 VSSA/VREF- (power), 9 VDDA/VREF+ (power), 10 PA0 (io), 11 PA1 (io), 12 PA2 (io), 13 PA3 (io), 14 PA4 (io), 15 PA5 (io), 16 PA6 (io), 17 PA7 (io), 18 PB0 (io), 19 PB1 (io), 20 PB2 (io), 21 PB10 (io), 22 VCAP_1 (power), 23 VSS (power), 24 VDD (power), 25 PB12 (io), 26 PB13 (io), 27 PB14 (io), 28 PB15 (io), 29 PA8 (io), 30 PA9 (io), 31 PA10 (io), 32 PA11 (io), 33 PA12 (io), 34 PA13/JTMS-SWDIO (io), 35 VSS (power), 36 VDD (power), 37 PA14/JTCK-SWCLK (io), 38 PA15/JTDI (io), 39 PB3/JTDO-SWO (io), 40 PB4/~{JTRST} (io), 41 PB5 (io), 42 PB6 (io), 43 PB7 (io), 44 BOOT0 (in), 45 PB8 (io), 46 PB9 (io), 47 VSS (power), 48 VDD (power), 49 EXP (power)

## STM32L432KCU6
designator U?
Microcontroller, UFQFPN-32(5x5), ARM-M4, 80MHz, Microcontrollers (MCU/MPU/SOC), ROHS; MF: STMicroelectronics; Package: UFQFN-32 STMicroelectronics; Value: STM32L432KCU6; Price: None; MP: STM32L432KCU6; SnapEDA_Link: https://www.snapeda.com/parts/STM32L432KCU6/STMicroelectronics/view-part/559839/?ref=snap; Availability: Unavailable
footprint QFN50P500X500X60-33N
pins: 1 VDD3 (power), 2 PF0/PC14-OSC32_1N (io), 3 PF1/PC15-OSC32_OUT (io), 4 NRST (io), 5 VDDA/VREF+ (power), 6 PA0/CK_IN (io), 7 PA1 (io), 8 PA2 (io), 9 PA3 (io), 10 PA4 (io), 11 PA5 (io), 12 PA6 (io), 13 PA7 (io), 14 PB0 (io), 15 PB1/NPOR (io), 16 PB2/VSS2 (io), 17 VDD2/VDD_USB (power), 18 PA8 (io), 19 PA9 (io), 20 PA10 (io), 21 PA11 (io), 22 PA12 (io), 23 PA13/JTMS-SWDIO (io), 24 PA14/JTCK-SWCLK (io), 25 PA15/JTDI (io), 26 PB3/JTDO-TRACESWO (io), 27 PB4/NJTRST (io), 28 PB5 (io), 29 PB6 (io), 30 PB7 (io), 31 BOOT0/PB8/PH3 (io), 32 PB8/VSS3 (io), 33 EXP (power)

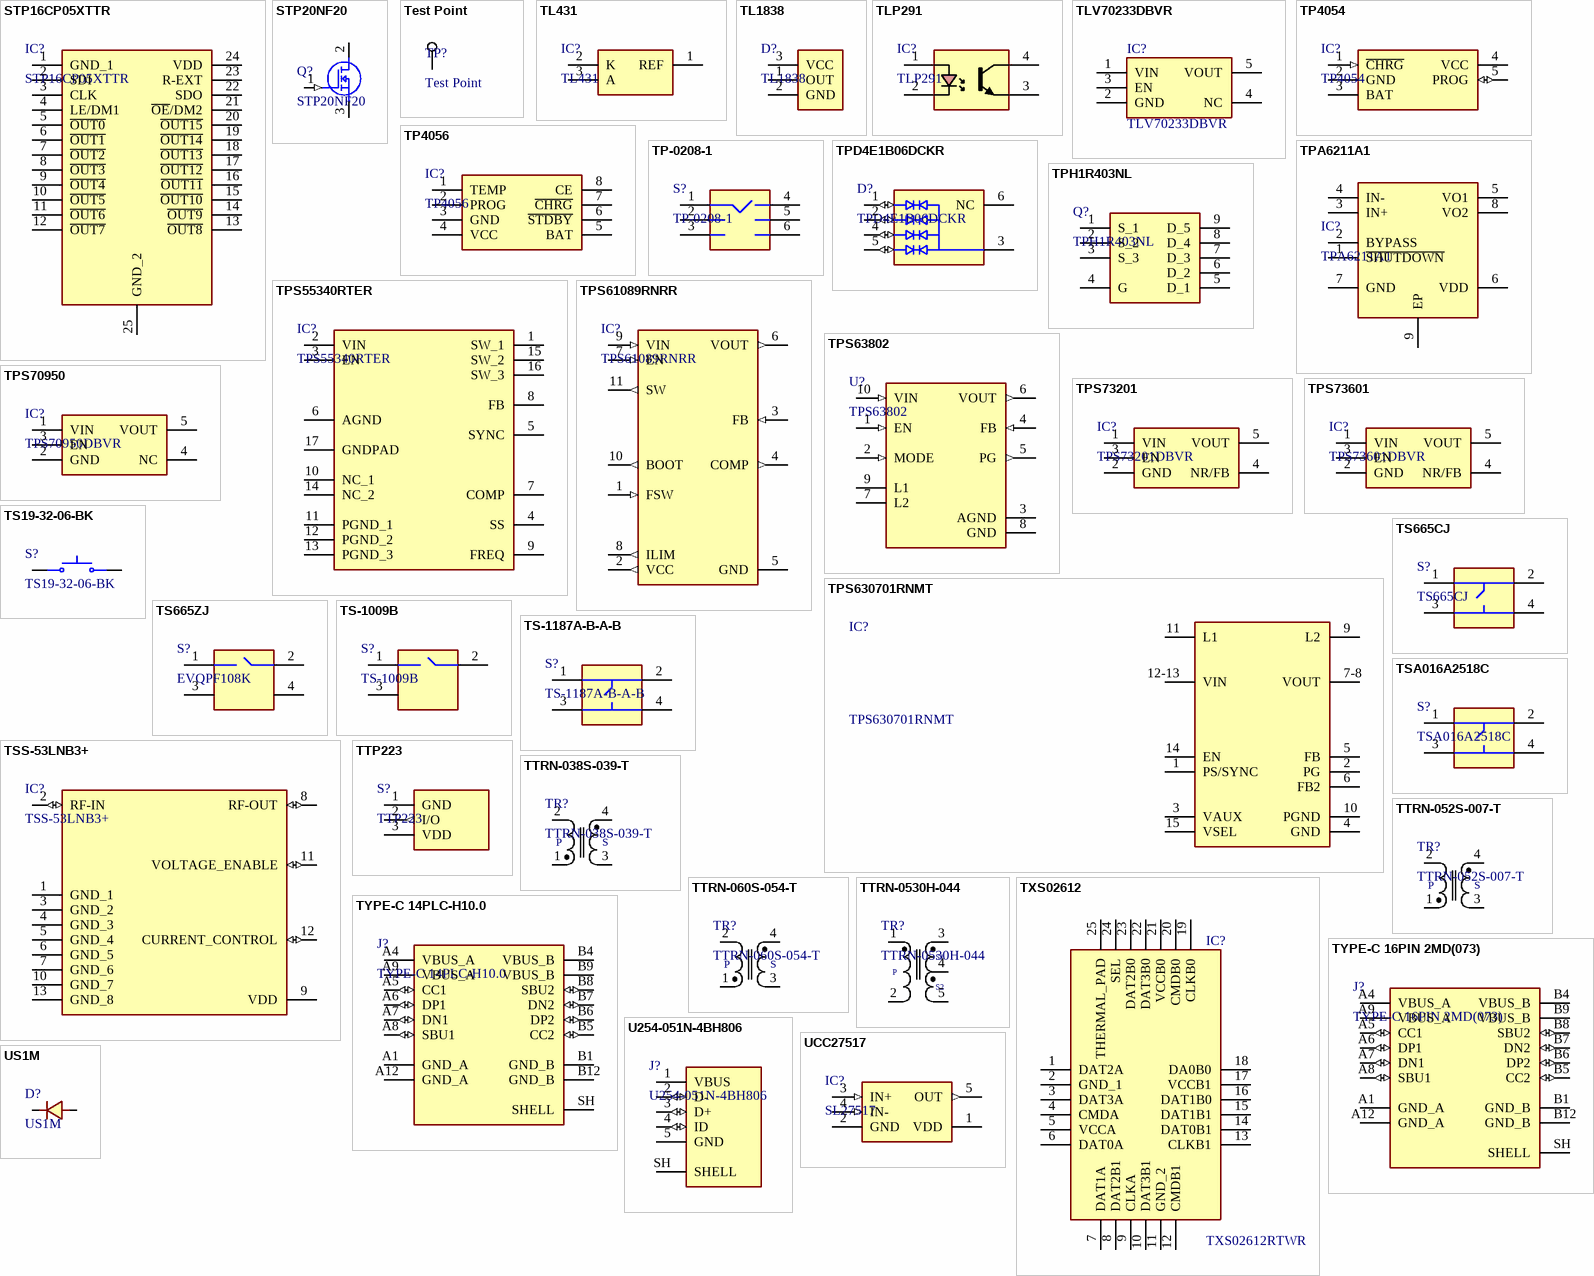
[diagram p9: symbols STP16CP05XTTR to US1M]

## STP16CP05XTTR
designator IC?
LED Driver, TSSOP-24-EP, 20V, 30MHz, 16, 100mA, 3V~5.5V, LED Drivers, ROHS; Datasheet Link: http://www.st.com/st-web-ui/static/active/en/resource/technical/document/datasheet/CD00126634.pdf; Height: 1.2mm; Value: STP16CP05XTTR
footprint SOP65P640X120-25N
pins: 1 GND_1, 2 SDI, 3 CLK, 4 LE/DM1, 5 ~{OUT0}, 6 ~{OUT1}, 7 ~{OUT2}, 8 ~{OUT3}, 9 ~{OUT4}, 10 ~{OUT5}, 11 ~{OUT6}, 12 ~{OUT7}, 13 ~{OUT8}, 14 ~{OUT9}, 15 ~{OUT10}, 16 ~{OUT11}, 17 ~{OUT12}, 18 ~{OUT13}, 19 ~{OUT14}, 20 ~{OUT15}, 21 ~{OE}/DM2, 22 SDO, 23 R-EXT, 24 VDD, 25 GND_2

## STP20NF20
designator Q?
MOSFET (N-Channel), TO-220, 200V, 18A, 30W, 125mΩ@10V, 1 N-Channel, Single FETs, MOSFETs, RoHS; Datasheet Link: https://www.onsemi.com/pub/Collateral/FDD10N20LZ-D.pdf; Value: STP20NF20
footprint TO-220 WITH SMD
footprint TO-220 WITH SMD_2
footprint TO-220/DPAK_THD/SMD_THD_#2
footprint TO-220/DPAK_THD/SMD_THD_#1
pins: 1 G (in), 2 D (power), 3 S (power)

## Test Point
designator TP?  (no BOM)
Value: Test Point
footprint Test Point
pins: 1

## TL431
designator IC?
Voltage Reference, SOT-23, 2.495V~36V, ±1%, 100mA, Adjustable, Voltage Reference, ROHS; Manufacturer_Name: Nexperia; Manufacturer_Part_Number: TL431MFDT,215; Datasheet Link: https://assets.nexperia.com/documents/data-sheet/TL431_FAM.pdf; Height: 1.1mm; Mouser Part Number: 771-TL431MFDT215; Mouser Price/Stock: https://www.mouser.co.uk/ProductDetail/Nexperia/TL431MFDT215?qs=A1cBxND5mHKvFzVl3lBdcQ%3D%3D; Arrow Part Number: TL431MFDT,215; Arrow Price/Stock: https://www.arrow.com/en/products/tl431mfdt215/nexperia?utm_currency=USD&region=nac; Value: TL431
footprint SOT95P230X110-3N
pins: 1 REF, 2 K, 3 A

## TL1838
designator D?
Remote Receiver Sensor, 38.0kHz, 45m, Through Hole; Datasheet Link: http://www.mouser.com/datasheet/2/427/introductionpartnumbers-537189.pdf; Value: TL1838
footprint TSOP4856
pins: 1 OUT, 2 GND, 3 VCC

## TLP291
designator IC?
Photovoltaic Output Optoisolator, SOP-4-1.27mm, 80V, 3.75kV, 50mA, 300mV@2.4mA, 8mA, 1, 5V, 1.25V, DC  Transistor, Photovoltaic Output Optoisolators, ROHS; Datasheet Link: https://datasheet.datasheetarchive.com/originals/distributors/Datasheets-TOS/DSATOSJO10001087.pdf; Height: 2.3mm; Value: TLP291
footprint SOIC127P700X230-4N
pins: 1 A "Anode", 2 K "Cathode", 3 E "Emitter", 4 C "Collector"

## TLV70233DBVR
designator IC?
Low Drop Out (LDO) Regulator, SOT-23-5, 300mA, 68dB@(1kHz), Fixed, 3.3V, Positive Electrode, 5.5V, Voltage Regulators - Linear, Low Drop Out (LDO) Regulators, ROHS; Manufacturer_Name: Texas Instruments; Geometry.Height: 1.45mm; Manufacturer_Part_Number: TLV70233DBVR; Mouser Part Number: 595-TLV70233DBVR; Mouser Price/Stock: https://www.mouser.co.uk/ProductDetail/Texas-Instruments/TLV70233DBVR?qs=zQ2yIHQ6k3wiHrD0NUI05Q%3D%3D; Arrow Part Number: TLV70233DBVR; Arrow Price/Stock: https://www.arrow.com/en/products/tlv70233dbvr/texas-instruments?region=nac; Datasheet Link: http://www.ti.com/lit/gpn/tlv702; Value: TLV70233DBVR
footprint SOT95P280X145-5N
pins: 1 VIN, 2 GND, 3 EN, 4 NC, 5 VOUT

## TP4054
designator IC?
Battery Management, SOT-23-5, 4.5V~5.5V, Lithium-ion/Polymer S1, Battery Management, ROHS; Datasheet Link: http://images.100y.com.tw/pdf_file/38-TP-TP4054x.pdf; Height: 1mm; Value: TP4054
footprint SOT95P280X100-5N
pins: 1 ~{CHRG} (in), 2 GND (power), 3 BAT (power), 4 VCC (power), 5 PROG (io)

## TP4056
designator IC?
Battery Management, ESOP-8, 4V~8V Lithium-ion/Polymer S1, 1000mA, Battery Management, ROHS; Datasheet Link: http://images.100y.com.tw/pdf_file/38-TP-TP4054x.pdf; Height: 1mm; Value: TP4056
footprint TSOP127P600X152-8N (TSOP, 8-Leads, Body 4,90x3,90mm, Pitch 1,27mm, IPC Medium Density)
pins: 1 TEMP, 2 PROG, 3 GND, 4 VCC, 5 BAT, 6 ~{STDBY}, 7 ~{CHRG}, 8 CE

## TP-0208-1
designator S?
Switch Tactile, Through Hole, 10x10mm, 6P, Multi-Directional Switches, ROHS; Datasheet Link: https://datasheet.datasheetarchive.com/originals/distributors/Datasheets-28/DSA-557100.pdf; Height: 7mm; Value: TP-0208-1
footprint TP-0208-1 (5 Direction Switch, Joystick, 10x10mm)
footprint TP-0208-1_CUTOUT (5 Direction Switch, Joystick, 10x10mm)
pins: 1, 2, 3 MH1, 4 MH2, 5 MH3, 6 MH4

## TPA6211A1
designator IC?
Audio Amplifier, MSOP-8-EP, Monaural, 3.1Wx1@3Ω, AB Class Amplifier, Audio Amplifiers, ROHS; Manufacturer_Name: Texas Instruments; Manufacturer_Part_Number: TPA6211A1DGN; Datasheet Link: http://www.ti.com/lit/gpn/tpa6211a1; Height: 1.1mm; Mouser Part Number: 595-TPA6211A1DGN; Mouser Price/Stock: https://www.mouser.co.uk/ProductDetail/Texas-Instruments/TPA6211A1DGN?qs=ojKcPFmCWSVH0ynDsY3xww%3D%3D; Arrow Part Number: TPA6211A1DGN; Arrow Price/Stock: https://www.arrow.com/en/products/tpa6211a1dgn/texas-instruments; Value: TPA6211A1
footprint SOP65P490X110-9N
footprint TPA6211A1DRBR
pins: 1 ~{SHUTDOWN}, 2 BYPASS, 3 IN+, 4 IN-, 5 VO1, 6 VDD, 7 GND, 8 VO2, 9 EP

## TPD4E1B06DCKR
designator D?
TVS Diode, SC-70-6, 3A@8/20us, 14.5V, 45W@8/20us, 7V, Bidirectional, 5.5V, TVS Diodes. RoHS; MF: Texas Instruments; SnapEDA_Link: https://www.snapeda.com/parts/TPD4E1B06DCKR/Texas+Instruments/view-part/?ref=snap; Package: SOT-SC70-6 Texas Instruments; Value: TPD4E1B06DCKR; MP: TPD4E1B06DCKR; Check_prices: https://www.snapeda.com/parts/TPD4E1B06DCKR/Texas+Instruments/view-part/?ref=eda
footprint SC-70-6 (Footprint not found)
pins: 1 IO1 (io), 2 IO2 (io), 3 GND (power), 4 IO3 (io), 5 IO4 (io), 6 NC

## TPH1R403NL
designator Q?
MOSFET (N-Channel), DFN-8(5x6), 30V, 150A, 64W, 1.7mΩ@4.5V, 30A, 1.3V, 1 N-channel, MOSFETs, ROHS; Datasheet Link: https://www.arrow.com/en/products/tph1r403nll1q/toshiba; Height: 1mm; Value: TPH1R403NL
footprint DFN-8(5x6)
pins: 1 S_1, 2 S_2, 3 S_3, 4 G, 5 D_1, 6 D_2, 7 D_3, 8 D_4, 9 D_5

## TPS55340RTER
designator IC?
DC-DC Converter, WQFN-16-EP(3x3), Boost Type, Adjustable, 2.9V~38V, 5.25A, 2.9V~32V, DC-DC Converters, ROHS; Manufacturer_Name: Texas Instruments; Datasheet Link: http://www.ti.com/general/docs/lit/getliterature.tsp?genericPartNumber=TPS55340&&fileType=pdf; Height: 0.8mm; Manufacturer_Part_Number: TPS55340RTER; Mouser Part Number: 595-TPS55340RTER; Mouser Price/Stock: https://www.mouser.co.uk/ProductDetail/Texas-Instruments/TPS55340RTER?qs=N%2FGwOzoYEAAx6J14jB%2FDAA%3D%3D; Arrow Part Number: TPS55340RTER; Arrow Price/Stock: https://www.arrow.com/en/products/tps55340rter/texas-instruments?region=nac; Value: TPS55340RTER
footprint QFN50P300X300X80-17N-D
pins: 1 SW_1, 2 VIN, 3 EN, 4 SS, 5 SYNC, 6 AGND, 7 COMP, 8 FB, 9 FREQ, 10 NC_1, 11 PGND_1, 12 PGND_2, 13 PGND_3, 14 NC_2, 15 SW_2, 16 SW_3, 17 GNDPAD

## TPS61089RNRR
designator IC?
DC DC Switching, VQFN-11-HR-EP(2x2.5), 12.6-V, 7-A, 2.2MHz, Boost, Adjustable, 1,  Voltage Regulators - DC DC Switching Regulators, RoHS; MF: Texas Instruments; Check_prices: https://www.snapeda.com/parts/TPS61089RNRR/Texas%20Instruments/view-part/551581/?ref=eda; Value: TPS61089RNRR; SnapEDA_Link: https://www.snapeda.com/parts/TPS61089RNRR/Texas%20Instruments/view-part/551581/?ref=snap; Price: None; Availability: Warning; Package: VQFN-HR-11 Texas Instruments; MP: TPS61089RNRR; Purchase-URL: https://pricing.snapeda.com/search/part/TPS61089RNRR/?ref=eda
footprint VQFN-11-HR-EP(2x2.5)
pins: 1 FSW (in), 2 VCC (out), 3 FB (in), 4 COMP (out), 5 GND (power), 6 VOUT (out), 7 EN (in), 8 ILIM (out), 9 VIN (in), 10 BOOT (out), 11 SW (out)

## TPS63802
designator U?
DC-DC Converter, VSON-10(2x3), Boost Type, Adjustable, 1.3V~5.5V, 2A, 1.8V~5.2V, DC-DC Converters, ROHS; MP: TPS63802DLAR; MF: Texas Instruments; Check_prices: https://www.snapeda.com/parts/TPS63802DLAR/Texas+Instruments/view-part/?ref=eda; Value: TPS63802; Availability: In Stock; Price: None; Package: VSON-HR-10 Texas Instruments; SnapEDA_Link: https://www.snapeda.com/parts/TPS63802DLAR/Texas+Instruments/view-part/?ref=snap; Purchase-URL: https://pricing.snapeda.com/search/part/TPS63802DLAR/?ref=eda
footprint VSON50P200X300X100-10N (2x3mm, 0.5mm pitch, 10-pin VSON, no EP, 1.0mm height)
pins: 1 EN (in), 2 MODE (in), 3 AGND (power), 4 FB (in), 5 PG (out), 6 VOUT (out), 7 L2, 8 GND (power), 9 L1, 10 VIN (in)

## TPS70950
designator IC?, comment TPS70950DBVR
Low Drop Out (LDO) Regulator, SOT-23-5, 150mA, Fixed, 5V, Positive Electrode, 5.5V, Voltage Regulators - Linear, Low Drop Out (LDO) Regulators, ROHS; Manufacturer_Name: Texas Instruments; Manufacturer_Part_Number: TPS73201DBVR; Datasheet Link: http://www.ti.com/lit/gpn/tps732; Height: 1.45mm; Mouser Part Number: 595-TPS73201DBVR; Mouser Price/Stock: https://www.mouser.co.uk/ProductDetail/Texas-Instruments/TPS73201DBVR?qs=6zVL%252ByCp0mqV4S9ad9oZ1A%3D%3D; Arrow Part Number: TPS73201DBVR; Arrow Price/Stock: null?region=nac; Value: TPS70950DBVR
footprint SOT95P280X145-5N
pins: 1 VIN, 2 GND, 3 EN, 4 NC, 5 VOUT

## TPS73201
designator IC?, comment TPS73201DBVR
Low Drop Out (LDO) Regulator, SOT-23-5, 250mA, Adjustable, 1.2V~5.5V, Positive electrode, 5.5V, Voltage Regulators - Linear, Low Drop Out (LDO) Regulators, ROHS; Manufacturer_Name: Texas Instruments; Datasheet Link: http://www.ti.com/lit/gpn/tps732; Height: 1.45mm; Manufacturer_Part_Number: TPS73201DBVR; Mouser Part Number: 595-TPS73201DBVR; Mouser Price/Stock: https://www.mouser.co.uk/ProductDetail/Texas-Instruments/TPS73201DBVR?qs=6zVL%252ByCp0mqV4S9ad9oZ1A%3D%3D; Arrow Part Number: TPS73201DBVR; Arrow Price/Stock: null?region=nac; Value: TPS73201DBVR
footprint SOT95P280X145-5N
pins: 1 VIN, 2 GND, 3 EN, 4 NR/FB, 5 VOUT

## TPS73601
designator IC?, comment TPS73601DBVR
Low Drop Out (LDO) Regulator, SOT-23-5, 400mA, Adjustable, 1.2V~5.5V, Positive Electrode, 5.5V, Voltage Regulators - Linear, Low Drop Out (LDO) Regulators, ROHS; Manufacturer_Name: Texas Instruments; Manufacturer_Part_Number: TPS73201DBVR; Datasheet Link: http://www.ti.com/lit/gpn/tps732; Height: 1.45mm; Mouser Part Number: 595-TPS73201DBVR; Mouser Price/Stock: https://www.mouser.co.uk/ProductDetail/Texas-Instruments/TPS73201DBVR?qs=6zVL%252ByCp0mqV4S9ad9oZ1A%3D%3D; Arrow Part Number: TPS73201DBVR; Arrow Price/Stock: null?region=nac; Value: TPS73601DBVR
footprint SOT95P280X145-5N
pins: 1 VIN, 2 GND, 3 EN, 4 NR/FB, 5 VOUT

## TPS630701RNMT
designator IC?
DC-DC Converter, VQFN-15-HR(2.5x3), Buck-Boost Type, Adjustable, 2V~16V, 2.5V~9V, 2A, Switching Regulator, DC-DC Controllers, ROHS; Manufacturer_Name: Texas Instruments; Geometry.Height: 1mm; Manufacturer_Part_Number: TPS630701RNMT; Mouser Part Number: 595-TPS630701RNMT; Mouser Price/Stock: https://www.mouser.co.uk/ProductDetail/Texas-Instruments/TPS630701RNMT?qs=LuYMPh7GGMSPLvRFGxg9uA%3D%3D; Arrow Part Number: TPS630701RNMT; Arrow Price/Stock: https://www.arrow.com/en/products/tps630701rnmt/texas-instruments?utm_currency=USD&region=europe; Datasheet Link: https://www.ti.com/lit/ds/symlink/tps63070.pdf?ts=1669550514886&ref_url=https%253A%252F%252Fwww.ti.com%252Fproduct%252FTPS63070%253FkeyMatch%253DTPS630701RNMT%2526tisearch%253Dsearch-everything%2526usecase%253DOPN; Value: TPS630701RNMT
footprint VQFN-15-HR(2.5x3)
pins: 1 PS/SYNC, 2 PG, 3 VAUX, 4 GND, 5 FB, 6 FB2, 7-8 VOUT, 9 L2, 10 PGND, 11 L1, 12-13 VIN, 14 EN, 15 VSEL

## TS19-32-06-BK
designator S?
Switch Tactile, SMD, 50mA, Standing Paste SPST - Normally Open, 180gf, 12V, Tactile Switches, ROHS; Datasheet Link: https://datasheet.datasheetarchive.com/originals/distributors/Datasheets-28/DSA-557100.pdf; Height: 7mm; Value: TS19-32-06-BK
footprint TS19-32-06-BK
pins: 1 S1, 2 S2

## TS665CJ
designator S?
Switch Tactile, Through Hole, 6x4.5mm, Round Button, 50mA, Direct Insert 6mm, SPST, 12V, Plugin Tactile Switches, ROHS; Datasheet Link: https://componentsearchengine.com/Datasheets/2/TL1105YF160Q.pdf; Height: 17mm; Value: TS665CJ
footprint TS02 (Tactical Switch (6x4.5))
pins: 1, 2, 3, 4

## TS665ZJ
designator S?, comment EVQPF108K
Switch Tactile, Through Hole, 6.2mm, 5mm, With bracket, 50mA, Round Button, Bend-in 6.2mm, SPST 50,000 times, 12V, 250gf, Plugin Tactile Switches, ROHS; Datasheet Link: https://datasheet.datasheetarchive.com/originals/distributors/Datasheets-28/DSA-557100.pdf; Height: 7mm; Value: EVQPF108K
footprint EVQPF008K
pins: 1, 2, 3 MH1, 4 MH2

## TS-1009B
designator S?
Switch Tactile, Through Hole, 4.5x4.5mm, Round Button, 50mA, Bend-in 4.5mm, SPST, 12V, Plugin, Tactile Switches, ROHS; Datasheet Link: https://www.mouser.com/datasheet/2/140/TL59-TL58-346345-1369262.pdf; Height: 5mm; Value: TS-1009B
footprint TS-1009B
pins: 1, 2, 3

## TS-1187A-B-A-B
designator S?
Switch Tactile, SMD, 5.1x5.1mm, Without bracket, 50mA, 100000 Times, 160gf, 12V, Round, SMD Tactile Switches, ROHS; Package: None; Value: TS-1187A-B-A-B
footprint TS-1187A-B-A-B
pins: 1, 2, 3, 4

## TSA016A2518C
designator S?
Switch Tactile, SMD, 3.35x2.5mm, Oval button, 50mA, Standing paste, 4.2mm ,180gf, 12V, SMD Tactile Switches, ROHS; Datasheet Link: http://www.alps.com/prod/info/E/HTML/Tact/SurfaceMount/SKRP/SKRPACE010.html; Value: TSA016A2518C
footprint TS20 (SMT Tactical Switch (4.2x3.2))
pins: 1, 2, 3, 4

## TSS-53LNB3+
designator IC?
RF Amplifier, MCLP-12(3x3), 2.7V~3.3V, 500MHz~5GHz, 18.4dB, 1.5dB, 14.9dBm, 42mA, RF Amplifiers, RoHS; MF: Mini-Circuits; SnapEDA_Link: https://www.snapeda.com/parts/TSS-53LNB3+/Mini-Circuits/view-part/?ref=snap; Package: None; Value: TSS-53LNB3+; MP: TSS-53LNB3+; Check_prices: https://www.snapeda.com/parts/TSS-53LNB3+/Mini-Circuits/view-part/?ref=eda
footprint QFN51P300X300X89-13
pins: 1 GND_1 (power), 2 RF-IN (io), 3 GND_2 (power), 4 GND_3 (power), 5 GND_4 (power), 6 GND_5 (power), 7 GND_6 (power), 8 RF-OUT (io), 9 VDD (power), 10 GND_7 (power), 11 VOLTAGE_ENABLE (io), 12 CURRENT_CONTROL (io), 13 GND_8 (power)

## TTP223
designator S?
Development Board, Touch Sensors, ROHS; Value: TTP223
footprint HEADER_PIN_3PIN
pins: 1 GND (power), 2 I/O (out), 3 VDD (power)

## TTRN-038S-039-T
designator TR?
Power Transformer, SMD-5P, 1:20, 6.4x6.4mm, Power Transformers, ROHS; Value: TTRN-038S-039-T
footprint TTRN-038S-039-T
pins: 1, 2, 3, 4
text: P; S

## TTRN-052S-007-T
designator TR?
Power Transformer, SMD-5P, 1:24.5, 8x6.8mm, Power Transformers, ROHS; Value: TTRN-052S-007-T
footprint TTRN-060S-013
pins: 1, 2, 3, 4
text: P; S

## TTRN-060S-054-T
designator TR?
Power Transformer, SMD-5P, 1:10, 8x6.8mm, Power Transformers, ROHS; Value: TTRN-060S-054-T
footprint TTRN-060S-013
pins: 1, 2, 3, 4
text: P; S

## TTRN-0530H-044
designator TR?
Power Transformer, SMD-5P, 1:12, 5x5mm, Power Transformers, ROHS; Value: TTRN-0530H-044
footprint TTRN-0530H-044
pins: 1, 2, 3, 4, 5
text: S1; P; S2

## TXS02612
designator IC?, comment TXS02612RTWR
Interface - Specialized, WQFN-24-EP(4x4), 120Mbps. SDIO Port Expander With Voltage-Level Translation, Interface - Specialized ROHS; Manufacturer_Name: Texas Instruments; Geometry.Height: 0.8mm; Manufacturer_Part_Number: TXS02612RTWR; Mouser Part Number: 595-TXS02612RTWR; Mouser Price/Stock: https://www.mouser.co.uk/ProductDetail/Texas-Instruments/TXS02612RTWR?qs=dqESbKqT1jaNFKC1R4M7hw%3D%3D; Arrow Part Number: TXS02612RTWR; Arrow Price/Stock: https://www.arrow.com/en/products/txs02612rtwr/texas-instruments?utm_currency=USD&region=nac; Datasheet Link: http://www.ti.com/lit/gpn/txs02612; Value: TXS02612RTWR
footprint QFN50P400X400X80-25N-D
pins: 1 DAT2A, 2 GND_1, 3 DAT3A, 4 CMDA, 5 VCCA, 6 DAT0A, 7 DAT1A, 8 DAT2B1, 9 CLKA, 10 DAT3B1, 11 GND_2, 12 CMDB1, 13 CLKB1, 14 DAT0B1, 15 DAT1B1, 16 DAT1B0, 17 VCCB1, 18 DA0B0, 19 CLKB0, 20 CMDB0, 21 VCCB0, 22 DAT3B0, 23 DAT2B0, 24 SEL, 25 THERMAL_PAD

## TYPE-C 14PLC-H10.0
designator J?
USB Connector, 5A, USB 3.1, Horizontal Attachment, 16P, Female, -25℃~+85℃, Type-C, SMD, USB Connectors, ROHS; Value: TYPE-C 14PLC-H10.0
footprint USB_C_VERTICAL (Female Connector)
footprint USB_C_DOUBLE_V/H_VERTICAL (Female Connector)
pins: A1 GND_A (power), A4 VBUS_A (power), A5 CC1 (io), A6 DP1 (io), A7 DN1 (io), A8 SBU1 (io), A9 VBUS_A (power), A12 GND_A (power), B1 GND_B (power), B4 VBUS_B (power), B5 CC2 (io), B6 DP2 (io), B7 DN2 (io), B8 SBU2 (io), B9 VBUS_B (power), B12 GND_B (power), SH SHELL (power)

## TYPE-C 16PIN 2MD(073)
designator J?
USB Connector, 5A, USB 3.1, Horizontal Attachment, 16P, Female, -25℃~+85℃, Type-C, SMD, USB Connectors, ROHS; Value: TYPE-C 16PIN 2MD(073)
footprint USB_C_1 (Female Connector)
footprint USB_C_DOUBLE_V/H_HORIZONTAL (Female Connector)
pins: A1 GND_A (power), A4 VBUS_A (power), A5 CC1 (io), A6 DP1 (io), A7 DN1 (io), A8 SBU1 (io), A9 VBUS_A (power), A12 GND_A (power), B1 GND_B (power), B4 VBUS_B (power), B5 CC2 (io), B6 DP2 (io), B7 DN2 (io), B8 SBU2 (io), B9 VBUS_B (power), B12 GND_B (power), SH SHELL (power)

## U254-051N-4BH806
designator J?
USB Connector, 1.8A, USB 2.0, Horizontal Attachment, 5P, Female, -20℃~+85℃, Micro-B, SMD, USB Connectors, ROHS; Value: U254-051N-4BH806; Manufacturer_Part_Number: U254-051N-4BH806
footprint USB_MIICRO_HORIZONTAL_3 (Horizontal Micro USB Female Connector)
pins: 1 VBUS (power), 2 D- (io), 3 D+ (io), 4 ID (io), 5 GND (power), SH SHELL (power)

## UCC27517
designator IC?, comment SL27517
Gate Driver, SOT-23-5, Low Edge, 1 MOSFET, 4A, 8ns, 7ns, 4.5V~18V, 4A, Gate Drivers, ROHS; Value: SL27517
footprint SOT95P285X145-5N
pins: 1 VDD (power), 2 GND (power), 3 IN+ (in), 4 IN- (in), 5 OUT (out)

## US1M
designator D?
Diode, SMD, SMA(DO-214AC), 1kV, 1A, 75ns, 1.65V@1A, Independent Type, SMA, Fast Recovery / High Efficiency Diodes, ROHS; Datasheet Link: https://componentsearchengine.com/Datasheets/2/US1M-E3_61T.pdf; Height: 2.29mm; Value: US1M
footprint DO-214AC (SMD Diode Package)
footprint DO-214AC - SMA (SMD Diode Package)
pins: 1 Kathode, 2 Anode

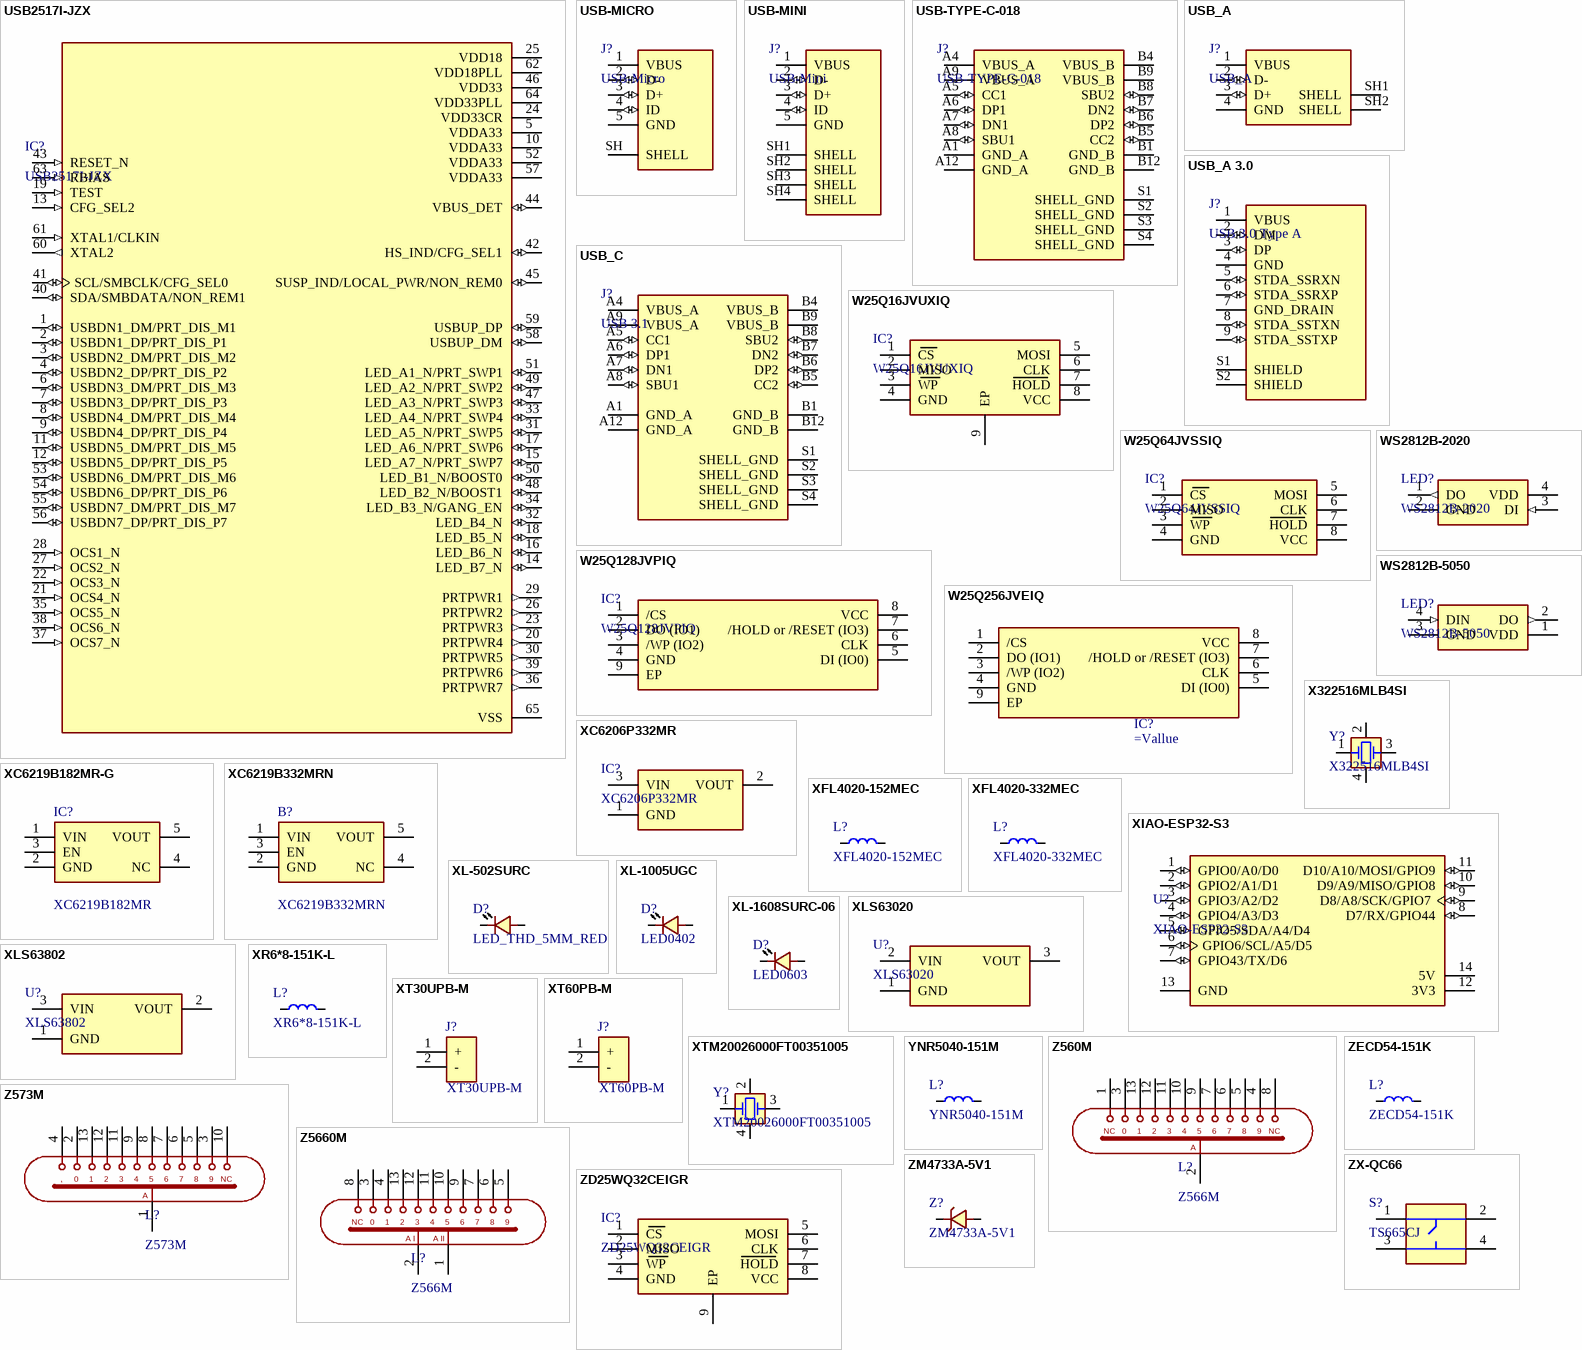
[diagram p10: symbols USB2517I-JZX to ZX-QC66]

## USB2517I-JZX
designator IC?
Controller, USB 2.0, QFN-64-EP(9x9), Interface Controllers, RoHS; MF: Microchip; SnapEDA_Link: https://www.snapeda.com/parts/USB2517I-JZX/Microchip/view-part/?ref=snap; Package: - Microchip; Value: USB2517I-JZX; MP: USB2517I-JZX; Check_prices: https://www.snapeda.com/parts/USB2517I-JZX/Microchip/view-part/?ref=eda
footprint QFN50P900X900X100-65N
pins: 1 USBDN1_DM/PRT_DIS_M1 (io), 2 USBDN1_DP/PRT_DIS_P1 (io), 3 USBDN2_DM/PRT_DIS_M2 (io), 4 USBDN2_DP/PRT_DIS_P2 (io), 5 VDDA33 (power), 6 USBDN3_DM/PRT_DIS_M3 (io), 7 USBDN3_DP/PRT_DIS_P3 (io), 8 USBDN4_DM/PRT_DIS_M4 (io), 9 USBDN4_DP/PRT_DIS_P4 (io), 10 VDDA33 (power), 11 USBDN5_DM/PRT_DIS_M5 (io), 12 USBDN5_DP/PRT_DIS_P5 (io), 13 CFG_SEL2 (in), 14 LED_B7_N (io), 15 LED_A7_N/PRT_SWP7 (io), 16 LED_B6_N (io), 17 LED_A6_N/PRT_SWP6 (io), 18 LED_B5_N (io), 19 TEST (in), 20 PRTPWR4 (out), 21 OCS4_N (in), 22 OCS3_N (in), 23 PRTPWR3 (out), 24 VDD33CR (power), 25 VDD18 (power), 26 PRTPWR2 (out), 27 OCS2_N (in), 28 OCS1_N (in), 29 PRTPWR1 (out), 30 PRTPWR5 (out), 31 LED_A5_N/PRT_SWP5 (io), 32 LED_B4_N (io), 33 LED_A4_N/PRT_SWP4 (io), 34 LED_B3_N/GANG_EN (io), 35 OCS5_N (in), 36 PRTPWR7 (out), 37 OCS7_N (in), 38 OCS6_N (in), 39 PRTPWR6 (out), 40 SDA/SMBDATA/NON_REM1 (io), 41 SCL/SMBCLK/CFG_SEL0 (io), 42 HS_IND/CFG_SEL1 (io), 43 RESET_N (in), 44 VBUS_DET (io), 45 SUSP_IND/LOCAL_PWR/NON_REM0 (io), 46 VDD33 (power), 47 LED_A3_N/PRT_SWP3 (io), 48 LED_B2_N/BOOST1 (io), 49 LED_A2_N/PRT_SWP2 (io), 50 LED_B1_N/BOOST0 (io), 51 LED_A1_N/PRT_SWP1 (io), 52 VDDA33 (power), 53 USBDN6_DM/PRT_DIS_M6 (io), 54 USBDN6_DP/PRT_DIS_P6 (io), 55 USBDN7_DM/PRT_DIS_M7 (io), 56 USBDN7_DP/PRT_DIS_P7 (io), 57 VDDA33 (power), 58 USBUP_DM (io), 59 USBUP_DP (io), 60 XTAL2 (out), 61 XTAL1/CLKIN (in), 62 VDD18PLL (power), 63 RBIAS (in), 64 VDD33PLL (power), 65 VSS (power)

## USB-MICRO
designator J?, comment USB-Micro
USB Connector, 1.8A, USB 2.0, Horizontal Attachment, 5P, Female, -20℃~+85℃, Micro-B, SMD, USB Connectors, ROHS; Value: USB-Micro
footprint USB_MIICRO_HORIZONTAL_1 (Horizontal Micro USB Female Connector)
footprint USB_MIICRO_VERTICAL (Vertical Micro USB)
footprint USB_MIICRO_HORIZONTAL_2 (USB 2.0 Type B Micro)
footprint USB_MIICRO_HORIZONTAL_3 (Horizontal Micro USB Female Connector)
footprint USB_MIICRO_COMBINED_HORIZONTAL (Horizontal Micro USB Female Connector)
pins: 1 VBUS (power), 2 D- (io), 3 D+ (io), 4 ID (io), 5 GND (power), SH SHELL (power)

## USB-MINI
designator J?, comment USB-Mini
USB Connector, 1.5A, USB 2.0, 1 Horizontal Attachment, 5P, Female, -20℃~+70℃, Mini-B, SMD, USB Connectors, ROHS; Value: USB-Mini
footprint USB_MINI (Mini USB Female Connector)
pins: 1 VBUS (power), 2 D- (io), 3 D+ (io), 4 ID (io), 5 GND (power), SH1 SHELL (power), SH2 SHELL (power), SH3 SHELL (power), SH4 SHELL (power)

## USB-TYPE-C-018
designator J?
USB Connector, SMD, 16P, USB 3.1, Type-C, Female, Right Angle, 3A, -25℃~+85℃, USB Connectors, ROHS; Value: USB-TYPE-C-018
footprint USB_C_1 (Female Connector)
pins: A1 GND_A (power), A4 VBUS_A (power), A5 CC1 (io), A6 DP1 (io), A7 DN1 (io), A8 SBU1 (io), A9 VBUS_A (power), A12 GND_A (power), B1 GND_B (power), B4 VBUS_B (power), B5 CC2 (io), B6 DP2 (io), B7 DN2 (io), B8 SBU2 (io), B9 VBUS_B (power), B12 GND_B (power), S1 SHELL_GND (power), S2 SHELL_GND (power), S3 SHELL_GND (power), S4 SHELL_GND (power)

## USB_A
designator J?
USB Connector, USB 2.0, 1.5A, 1 Bend-in, 4P, Male, -25℃~+85℃, Type-A, Plugin, USB Connectors, ROHS; Datasheet Link: https://www.te.com/commerce/DocumentDelivery/DDEController?Action=showdoc&DocId=Customer+Drawing%7F1734028%7FC%7Fpdf%7FEnglish%7FENG_CD_1734028_C.pdf%7F1734028-1; Height: 4.5mm; Value: USB_A
footprint USB_A (Male USB-A Connector)
footprint USB_A_2 (Footprint not found)
pins: 1 VBUS (power), 2 D- (io), 3 D+ (io), 4 GND (power), SH1 SHELL (power), SH2 SHELL (power)

## USB_A 3.0
designator J?, comment USB 3.0 Type A
USB Connector, USB 3.0, 1.8A, 1 Bend-in, 9P, Female, -55℃~+85℃, Type-A, Plugin, USB Connectors, ROHS; Value: USB 3.0 Type A; Package: None
footprint USB 3.0 Type A
footprint USB_A_3
pins: 1 VBUS (power), 2 DM (io), 3 DP (io), 4 GND (power), 5 STDA_SSRXN (io), 6 STDA_SSRXP (io), 7 GND_DRAIN (power), 8 STDA_SSTXN (io), 9 STDA_SSTXP (io), S1 SHIELD, S2 SHIELD

## USB_C
designator J?, comment USB 3.1
USB Connector, 5A, USB 3.1, 1 Horizontal Attachment, 16P, Female, -25℃~+85℃, Type-C, SMD, USB Connectors, ROHS; Value: USB 3.1
footprint USB_C_1 (Female Connector)
footprint USB_C_2
footprint USB_C_VERTICAL (Female Connector)
footprint USB_C_3 (6 Pin Version)
footprint USB_C_4 (Female Connector)
footprint USB_C_DOUBLE (Female Connector)
pins: A1 GND_A (power), A4 VBUS_A (power), A5 CC1 (io), A6 DP1 (io), A7 DN1 (io), A8 SBU1 (io), A9 VBUS_A (power), A12 GND_A (power), B1 GND_B (power), B4 VBUS_B (power), B5 CC2 (io), B6 DP2 (io), B7 DN2 (io), B8 SBU2 (io), B9 VBUS_B (power), B12 GND_B (power), S1 SHELL_GND (power), S2 SHELL_GND (power), S3 SHELL_GND (power), S4 SHELL_GND (power)

## W25Q16JVUXIQ
designator IC?
NOR FLASH, USON-8-EP(2x3), 16MBit, SPI, 133MHz, NOR FLASH, ROHS; Datasheet Link: https://www.mouser.com/datasheet/2/949/w25q16jv_dtr_reve_02092018_plus-1489664.pdf; Height: 0.6mm; Value: W25Q16JVUXIQ
footprint SON50P300X200X60-9N-D
pins: 1 CS, 2 MISO, 3 WP, 4 GND (power), 5 MOSI, 6 CLK, 7 HOLD, 8 VCC, 9 EP

## W25Q64JVSSIQ
designator IC?
NOR FLASH, SOIC-8-208mil, 64Mbit, SPI, 133MHz, NOR FLASH, ROHS; Value: W25Q64JVSSIQ
footprint SOIC127P798X216-8N
pins: 1 CS, 2 MISO, 3 WP, 4 GND (power), 5 MOSI, 6 CLK, 7 HOLD, 8 VCC